# Altium schematic symbol library MCU_ST_STM32H7.SchLib: 225 symbols (part 3 of 9)
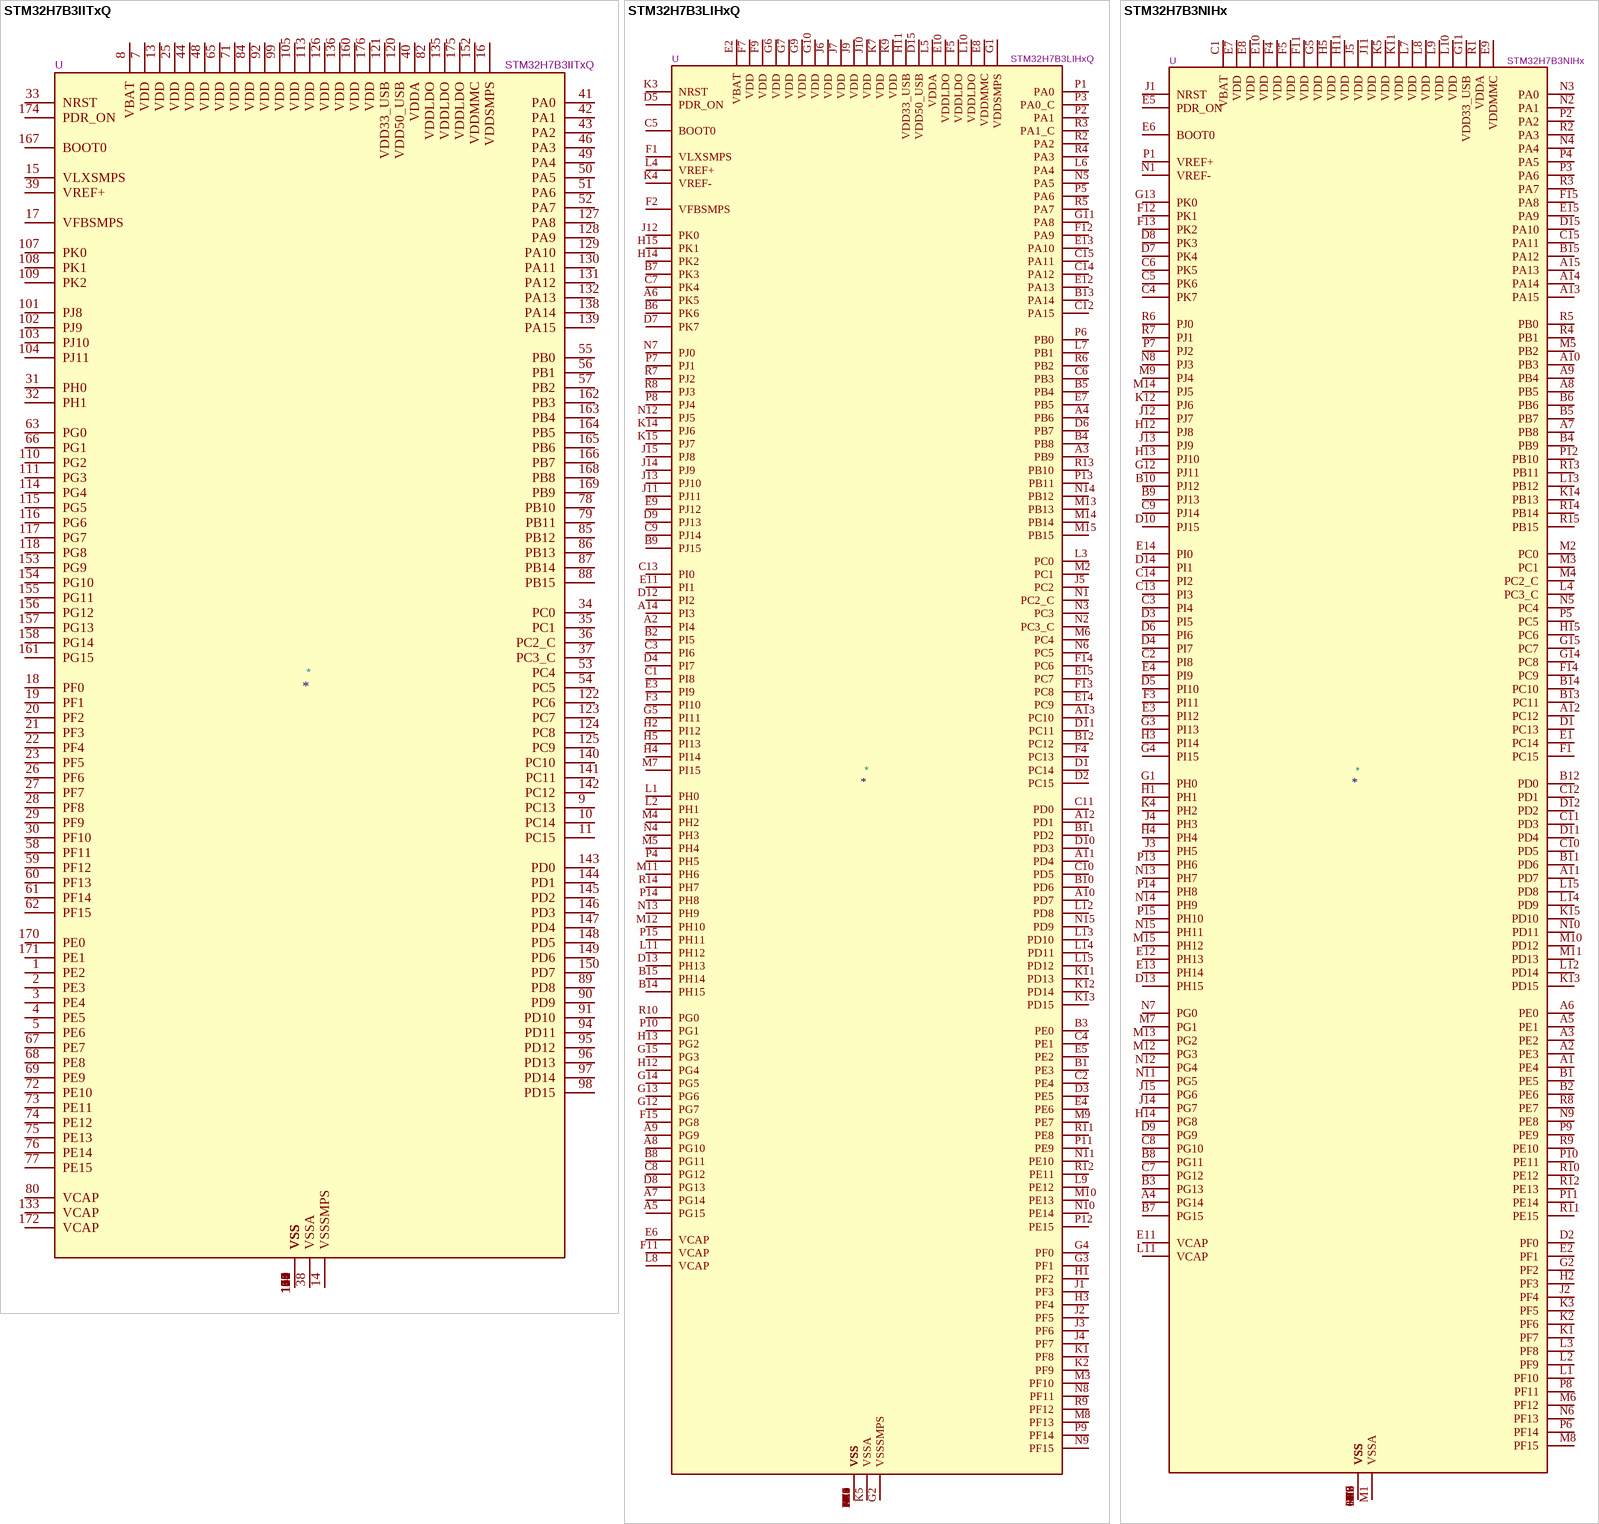
[diagram p89: symbols STM32H7B3IITxQ to STM32H7B3NIHx]

## STM32H7B3IITxQ
designator *  value STM32H7B3IITxQ  Reference: U
STMicroelectronics Arm Cortex-M7 MCU, 2048KB flash, 1184KB RAM, 280 MHz, 1.62-3.6V, 121 GPIO, LQFP176; ki_keywords: Arm Cortex-M7 STM32H7 STM32H7A3/7B3; ki_fp_filters: LQFP*24x24mm*P0.5mm*; Footprint: Package_QFP:LQFP-176_24x24mm_P0.5mm; Datasheet: https://www.st.com/resource/en/datasheet/stm32h7b3ii.pdf; Description_: STMicroelectronics Arm Cortex-M7 MCU, 2048KB flash, 1184KB RAM, 280 MHz, 1.62-3.6V, 121 GPIO, LQFP176
pins: 1 PE2, 2 PE3, 3 PE4, 4 PE5, 5 PE6, 6 VSS, 7 VDD, 8 VBAT, 9 PC13, 10 PC14, 11 PC15, 12 VSS, 13 VDD, 14 VSSSMPS, 15 VLXSMPS, 16 VDDSMPS, 17 VFBSMPS, 18 PF0, 19 PF1, 20 PF2, 21 PF3, 22 PF4, 23 PF5, 24 VSS, 25 VDD, 26 PF6, 27 PF7, 28 PF8, 29 PF9, 30 PF10, 31 PH0, 32 PH1, 33 NRST, 34 PC0, 35 PC1, 36 PC2_C, 37 PC3_C, 38 VSSA, 39 VREF+, 40 VDDA, 41 PA0, 42 PA1, 43 PA2, 44 VDD, 45 VSS, 46 PA3, 47 VSS, 48 VDD, 49 PA4, 50 PA5, 51 PA6, 52 PA7, 53 PC4, 54 PC5, 55 PB0, 56 PB1, 57 PB2, 58 PF11, 59 PF12, 60 PF13, 61 PF14, 62 PF15, 63 PG0, 64 VSS, 65 VDD, 66 PG1, 67 PE7, 68 PE8, 69 PE9, 70 VSS, 71 VDD, 72 PE10, 73 PE11, 74 PE12, 75 PE13, 76 PE14, 77 PE15, 78 PB10, 79 PB11, 80 VCAP, 81 VSS, 82 VDDLDO, 83 VSS, 84 VDD, 85 PB12, 86 PB13, 87 PB14, 88 PB15, 89 PD8, 90 PD9, 91 PD10, 92 VDD, 93 VSS, 94 PD11, 95 PD12, 96 PD13, 97 PD14, 98 PD15, 99 VDD, 100 VSS, 101 PJ8, 102 PJ9, 103 PJ10, 104 PJ11, 105 VDD, 106 VSS, 107 PK0, 108 PK1, 109 PK2, 110 PG2, 111 PG3, 112 VSS, 113 VDD, 114 PG4, 115 PG5, 116 PG6, 117 PG7, 118 PG8, 119 VSS, 120 VDD50_USB, 121 VDD33_USB, 122 PC6, 123 PC7, 124 PC8, 125 PC9, 126 VDD, 127 PA8, 128 PA9, 129 PA10, 130 PA11, 131 PA12, 132 PA13, 133 VCAP, 134 VSS, 135 VDDLDO, 136 VDD, 137 VSS, 138 PA14, 139 PA15, 140 PC10, 141 PC11, 142 PC12, 143 PD0, 144 PD1, 145 PD2, 146 PD3, 147 PD4, 148 PD5, 149 PD6, 150 PD7, 151 VSS, 152 VDDMMC, 153 PG9, 154 PG10, 155 PG11, 156 PG12, 157 PG13, 158 PG14, 159 VSS, 160 VDD, 161 PG15, 162 PB3, 163 PB4, 164 PB5, 165 PB6, 166 PB7, 167 BOOT0, 168 PB8, 169 PB9, 170 PE0, 171 PE1, 172 VCAP, 173 VSS, 174 PDR_ON, 175 VDDLDO, 176 VDD

## STM32H7B3LIHxQ
designator *  value STM32H7B3LIHxQ  Reference: U
STMicroelectronics Arm Cortex-M7 MCU, 2048KB flash, 1184KB RAM, 280 MHz, 1.62-3.6V, 172 GPIO, TFBGA225; ki_keywords: Arm Cortex-M7 STM32H7 STM32H7A3/7B3; ki_fp_filters: ST*TFBGA*13x13mm*Layout15x15*P0.8mm*; Footprint: Package_BGA:ST_TFBGA-225_13x13mm_Layout15x15_P0.8mm; Datasheet: https://www.st.com/resource/en/datasheet/stm32h7b3li.pdf; Description_: STMicroelectronics Arm Cortex-M7 MCU, 2048KB flash, 1184KB RAM, 280 MHz, 1.62-3.6V, 172 GPIO, TFBGA225
pins: A1 VSS, A2 PI4, A3 PB9, A4 PB6, A5 PG15, A6 PK5, A7 PG14, A8 PG10, A9 PG9, A10 PD7, A11 PD4, A12 PD1, A13 PC10, A14 PI3, A15 VSS, B1 PE3, B2 PI5, B3 PE0, B4 PB8, B5 PB4, B6 PK6, B7 PK3, B8 PG11, B9 PJ15, B10 PD6, B11 PD2, B12 PC12, B13 PA14, B14 PH15, B15 PH14, C1 PI8, C2 PE4, C3 PI6, C4 PE1, C5 BOOT0, C6 PB3, C7 PK4, C8 PG12, C9 PJ14, C10 PD5, C11 PD0, C12 PA15, C13 PI0, C14 PA12, C15 PA11, D1 PC14, D2 PC15, D3 PE5, D4 PI7, D5 PDR_ON, D6 PB7, D7 PK7, D8 PG13, D9 PJ13, D10 PD3, D11 PC11, D12 PI2, D13 PH13, D14 VSS, D15 VDD50_USB, E1 VSS, E2 VBAT, E3 PI9, E4 PE6, E5 PE2, E6 VCAP, E7 PB5, E8 VDDMMC, E9 PJ12, E10 VDDLDO, E11 PI1, E12 PA13, E13 PA10, E14 PC9, E15 PC7, F1 VLXSMPS, F2 VFBSMPS, F3 PI10, F4 PC13, F5 VDDLDO, F6 VSS, F7 VDD, F8 VSS, F9 VDD, F10 VSS, F11 VCAP, F12 PA9, F13 PC8, F14 PC6, F15 PG8, G1 VDDSMPS, G2 VSSSMPS, G3 PF1, G4 PF0, G5 PI11, G6 VDD, G7 VDD, G8 VSS, G9 VDD, G10 VDD, G11 PA8, G12 PG7, G13 PG6, G14 PG5, G15 PG3, H1 PF2, H2 PI12, H3 PF4, H4 PI14, H5 PI13, H6 VSS, H7 VSS, H8 VSS, H9 VSS, H10 VSS, H11 VDD33_USB, H12 PG4, H13 PG2, H14 PK2, H15 PK1, J1 PF3, J2 PF5, J3 PF6, J4 PF7, J5 PC2, J6 VDD, J7 VDD, J8 VSS, J9 VDD, J10 VDD, J11 PJ11, J12 PK0, J13 PJ10, J14 PJ9, J15 PJ8, K1 PF8, K2 PF9, K3 NRST, K4 VREF-, K5 VSSA, K6 VSS, K7 VDD, K8 VSS, K9 VDD, K10 VSS, K11 PD13, K12 PD14, K13 PD15, K14 PJ6, K15 PJ7, L1 PH0, L2 PH1, L3 PC0, L4 VREF+, L5 VDDA, L6 PA4, L7 PB1, L8 VCAP, L9 PE12, L10 VDDLDO, L11 PH12, L12 PD8, L13 PD10, L14 PD11, L15 PD12, M1 VSS, M2 PC1, M3 PF10, M4 PH2, M5 PH4, M6 PC4, M7 PI15, M8 PF13, M9 PE7, M10 PE13, M11 PH6, M12 PH10, M13 PB13, M14 PB14, M15 PB15, N1 PC2_C, N2 PC3_C, N3 PC3, N4 PH3, N5 PA5, N6 PC5, N7 PJ0, N8 PF11, N9 PF15, N10 PE14, N11 PE10, N12 PJ5, N13 PH9, N14 PB12, N15 PD9, P1 PA0, P2 PA1, P3 PA0_C, P4 PH5, P5 PA6, P6 PB0, P7 PJ1, P8 PJ4, P9 PF14, P10 PG1, P11 PE9, P12 PE15, P13 PB11, P14 PH8, P15 PH11, R1 VSS, R2 PA2, R3 PA1_C, R4 PA3, R5 PA7, R6 PB2, R7 PJ2, R8 PJ3, R9 PF12, R10 PG0, R11 PE8, R12 PE11, R13 PB10, R14 PH7, R15 VSS

## STM32H7B3NIHx
designator *  value STM32H7B3NIHx  Reference: U
STMicroelectronics Arm Cortex-M7 MCU, 2048KB flash, 1184KB RAM, 280 MHz, 1.62-3.6V, 168 GPIO, TFBGA216; ki_keywords: Arm Cortex-M7 STM32H7 STM32H7A3/7B3; ki_fp_filters: TFBGA*13x13mm*Layout15x15*P0.8mm*; Footprint: Package_BGA:TFBGA-216_13x13mm_Layout15x15_P0.8mm; Datasheet: https://www.st.com/resource/en/datasheet/stm32h7b3ni.pdf; Description_: STMicroelectronics Arm Cortex-M7 MCU, 2048KB flash, 1184KB RAM, 280 MHz, 1.62-3.6V, 168 GPIO, TFBGA216
pins: A1 PE4, A2 PE3, A3 PE2, A4 PG14, A5 PE1, A6 PE0, A7 PB8, A8 PB5, A9 PB4, A10 PB3, A11 PD7, A12 PC12, A13 PA15, A14 PA14, A15 PA13, B1 PE5, B2 PE6, B3 PG13, B4 PB9, B5 PB7, B6 PB6, B7 PG15, B8 PG11, B9 PJ13, B10 PJ12, B11 PD6, B12 PD0, B13 PC11, B14 PC10, B15 PA12, C1 VBAT, C2 PI8, C3 PI4, C4 PK7, C5 PK6, C6 PK5, C7 PG12, C8 PG10, C9 PJ14, C10 PD5, C11 PD3, C12 PD1, C13 PI3, C14 PI2, C15 PA11, D1 PC13, D2 PF0, D3 PI5, D4 PI7, D5 PI10, D6 PI6, D7 PK4, D8 PK3, D9 PG9, D10 PJ15, D11 PD4, D12 PD2, D13 PH15, D14 PI1, D15 PA10, E1 PC14, E2 PF1, E3 PI12, E4 PI9, E5 PDR_ON, E6 BOOT0, E7 VDD, E8 VDD, E9 VDDMMC, E10 VDD, E11 VCAP, E12 PH13, E13 PH14, E14 PI0, E15 PA9, F1 PC15, F2 VSS, F3 PI11, F4 VDD, F5 VDD, F6 VSS, F7 VSS, F8 VSS, F9 VSS, F10 VSS, F11 VDD, F12 PK1, F13 PK2, F14 PC9, F15 PA8, G1 PH0, G2 PF2, G3 PI13, G4 PI15, G5 VDD, G6 VSS, G10 VSS, G11 VDD33_USB, G12 PJ11, G13 PK0, G14 PC8, G15 PC7, H1 PH1, H2 PF3, H3 PI14, H4 PH4, H5 VDD, H6 VSS, H10 VSS, H11 VDD, H12 PJ8, H13 PJ10, H14 PG8, H15 PC6, J1 NRST, J2 PF4, J3 PH5, J4 PH3, J5 VDD, J6 VSS, J10 VSS, J11 VDD, J12 PJ7, J13 PJ9, J14 PG7, J15 PG6, K1 PF7, K2 PF6, K3 PF5, K4 PH2, K5 VDD, K6 VSS, K7 VSS, K8 VSS, K9 VSS, K10 VSS, K11 VDD, K12 PJ6, K13 PD15, K14 PB13, K15 PD10, L1 PF10, L2 PF9, L3 PF8, L4 PC3_C, L5 VSS, L6 VSS, L7 VDD, L8 VDD, L9 VDD, L10 VDD, L11 VCAP, L12 PD14, L13 PB12, L14 PD9, L15 PD8, M1 VSSA, M2 PC0, M3 PC1, M4 PC2_C, M5 PB2, M6 PF12, M7 PG1, M8 PF15, M9 PJ4, M10 PD12, M11 PD13, M12 PG3, M13 PG2, M14 PJ5, M15 PH12, N1 VREF-, N2 PA1, N3 PA0, N4 PA4, N5 PC4, N6 PF13, N7 PG0, N8 PJ3, N9 PE8, N10 PD11, N11 PG5, N12 PG4, N13 PH7, N14 PH9, N15 PH11, P1 VREF+, P2 PA2, P3 PA6, P4 PA5, P5 PC5, P6 PF14, P7 PJ2, P8 PF11, P9 PE9, P10 PE11, P11 PE14, P12 PB10, P13 PH6, P14 PH8, P15 PH10, R1 VDDA, R2 PA3, R3 PA7, R4 PB1, R5 PB0, R6 PJ0, R7 PJ1, R8 PE7, R9 PE10, R10 PE12, R11 PE15, R12 PE13, R13 PB11, R14 PB14, R15 PB15

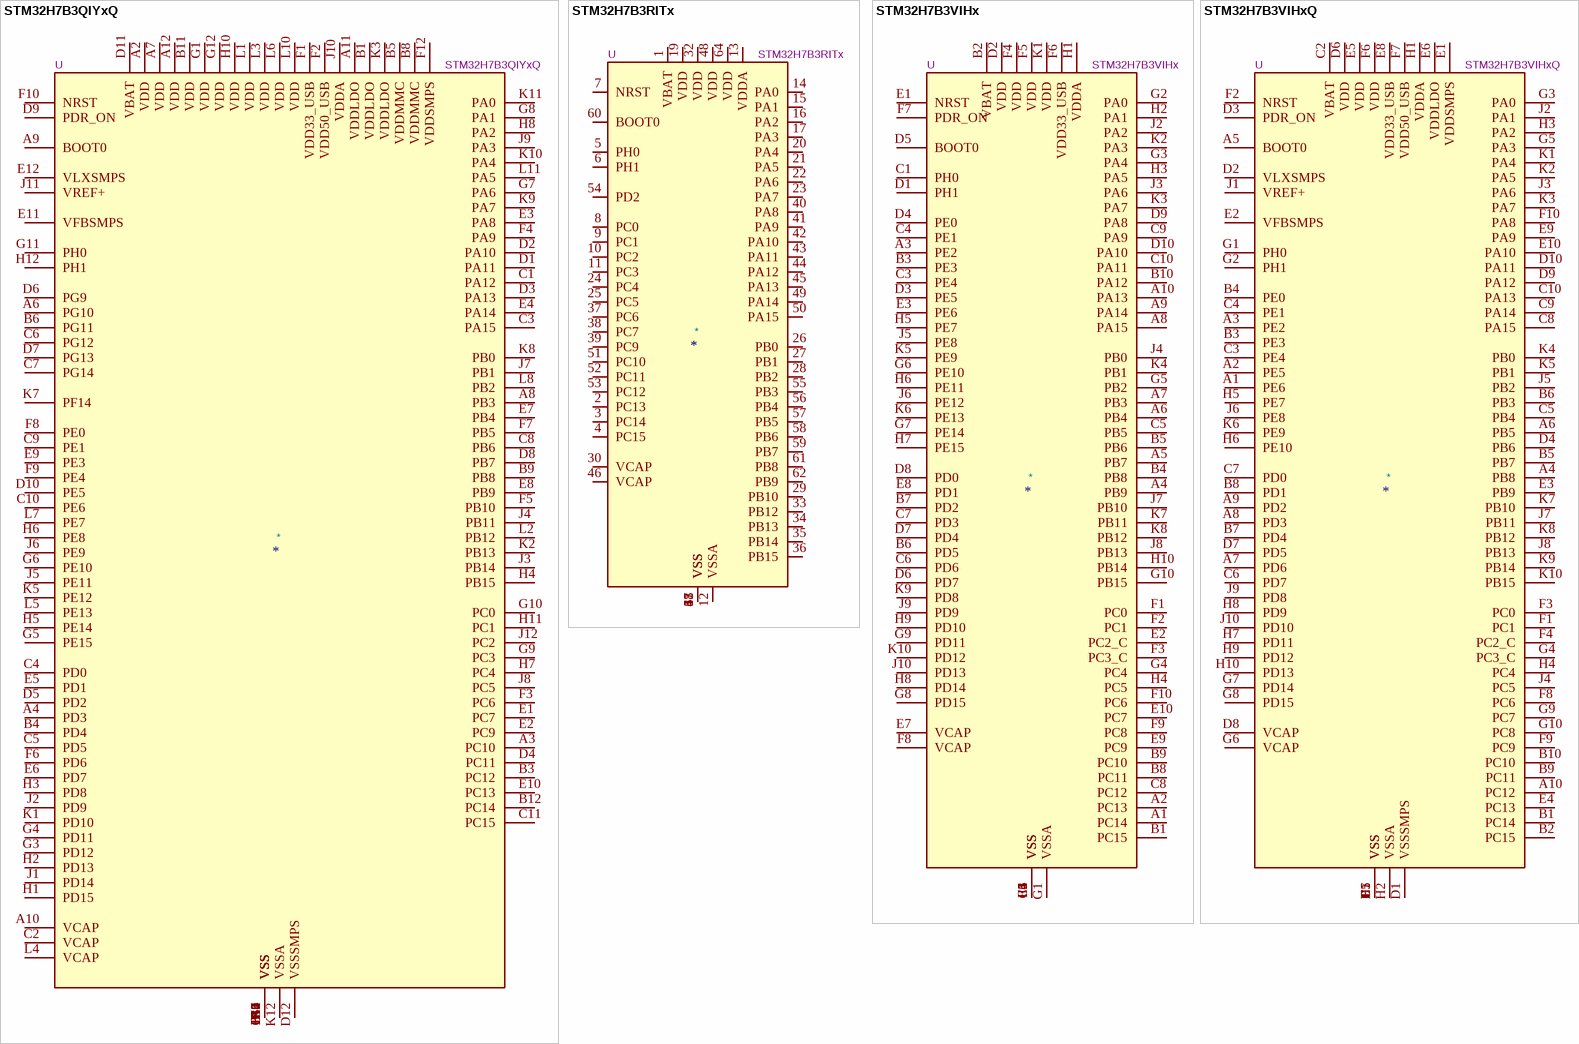
[diagram p20: symbols STM32H7B3QIYxQ to STM32H7B3VIHxQ]

## STM32H7B3QIYxQ
designator *  value STM32H7B3QIYxQ  Reference: U
STMicroelectronics Arm Cortex-M7 MCU, 2048KB flash, 1184KB RAM, 280 MHz, 1.62-3.6V, 87 GPIO, WLCSP132; ki_keywords: Arm Cortex-M7 STM32H7 STM32H7A3/7B3; ki_fp_filters: ST*WLCSP*4.57x4.37mm*Layout12x11*P0.35mm*; Footprint: Package_CSP:ST_WLCSP-132_4.57x4.37mm_Layout12x11_P0.35mm; Datasheet: https://www.st.com/resource/en/datasheet/stm32h7b3qi.pdf; Description_: STMicroelectronics Arm Cortex-M7 MCU, 2048KB flash, 1184KB RAM, 280 MHz, 1.62-3.6V, 87 GPIO, WLCSP132
pins: A1 VSS, A2 VDD, A3 PC10, A4 PD3, A5 VSS, A6 PG10, A7 VDD, A8 PB3, A9 BOOT0, A10 VCAP, A11 VDDLDO, A12 VDD, B1 VDDLDO, B2 VSS, B3 PC12, B4 PD4, B5 VDDMMC, B6 PG11, B7 VSS, B8 VDDMMC, B9 PB8, B10 VSS, B11 VDD, B12 PC14, C1 PA12, C2 VCAP, C3 PA15, C4 PD0, C5 PD5, C6 PG12, C7 PG14, C8 PB6, C9 PE1, C10 PE6, C11 PC15, C12 VSS, D1 PA11, D2 PA10, D3 PA13, D4 PC11, D5 PD2, D6 PG9, D7 PG13, D8 PB7, D9 PDR_ON, D10 PE5, D11 VBAT, D12 VSSSMPS, E1 PC7, E2 PC9, E3 PA8, E4 PA14, E5 PD1, E6 PD7, E7 PB4, E8 PB9, E9 PE3, E10 PC13, E11 VFBSMPS, E12 VLXSMPS, F1 VDD33_USB, F2 VDD50_USB, F3 PC6, F4 PA9, F5 PB10, F6 PD6, F7 PB5, F8 PE0, F9 PE4, F10 NRST, F11 VSS, F12 VDDSMPS, G1 VDD, G2 VSS, G3 PD12, G4 PD11, G5 PE15, G6 PE10, G7 PA6, G8 PA1, G9 PC3, G10 PC0, G11 PH0, G12 VDD, H1 PD15, H2 PD13, H3 PD8, H4 PB15, H5 PE14, H6 PE8, H7 PC4, H8 PA2, H9 VSS, H10 VDD, H11 PC1, H12 PH1, J1 PD14, J2 PD9, J3 PB14, J4 PB11, J5 PE11, J6 PE9, J7 PB1, J8 PC5, J9 PA3, J10 VDDA, J11 VREF+, J12 PC2, K1 PD10, K2 PB13, K3 VDDLDO, K4 VSS, K5 PE12, K6 VSS, K7 PF14, K8 PB0, K9 PA7, K10 PA4, K11 PA0, K12 VSSA, L1 VDD, L2 PB12, L3 VDD, L4 VCAP, L5 PE13, L6 VDD, L7 PE7, L8 PB2, L9 VSS, L10 VDD, L11 PA5, L12 VSS

## STM32H7B3RITx
designator *  value STM32H7B3RITx  Reference: U
STMicroelectronics Arm Cortex-M7 MCU, 2048KB flash, 1184KB RAM, 280 MHz, 1.62-3.6V, 49 GPIO, LQFP64; ki_keywords: Arm Cortex-M7 STM32H7 STM32H7A3/7B3; ki_fp_filters: LQFP*10x10mm*P0.5mm*; Footprint: Package_QFP:LQFP-64_10x10mm_P0.5mm; Datasheet: https://www.st.com/resource/en/datasheet/stm32h7b3ri.pdf; Description_: STMicroelectronics Arm Cortex-M7 MCU, 2048KB flash, 1184KB RAM, 280 MHz, 1.62-3.6V, 49 GPIO, LQFP64
pins: 1 VBAT, 2 PC13, 3 PC14, 4 PC15, 5 PH0, 6 PH1, 7 NRST, 8 PC0, 9 PC1, 10 PC2, 11 PC3, 12 VSSA, 13 VDDA, 14 PA0, 15 PA1, 16 PA2, 17 PA3, 18 VSS, 19 VDD, 20 PA4, 21 PA5, 22 PA6, 23 PA7, 24 PC4, 25 PC5, 26 PB0, 27 PB1, 28 PB2, 29 PB10, 30 VCAP, 31 VSS, 32 VDD, 33 PB12, 34 PB13, 35 PB14, 36 PB15, 37 PC6, 38 PC7, 39 PC9, 40 PA8, 41 PA9, 42 PA10, 43 PA11, 44 PA12, 45 PA13, 46 VCAP, 47 VSS, 48 VDD, 49 PA14, 50 PA15, 51 PC10, 52 PC11, 53 PC12, 54 PD2, 55 PB3, 56 PB4, 57 PB5, 58 PB6, 59 PB7, 60 BOOT0, 61 PB8, 62 PB9, 63 VSS, 64 VDD

## STM32H7B3VIHx
designator *  value STM32H7B3VIHx  Reference: U
STMicroelectronics Arm Cortex-M7 MCU, 2048KB flash, 1184KB RAM, 280 MHz, 1.62-3.6V, 82 GPIO, TFBGA100; ki_keywords: Arm Cortex-M7 STM32H7 STM32H7A3/7B3; ki_fp_filters: TFBGA*8x8mm*Layout10x10*P0.8mm*; Footprint: Package_BGA:TFBGA-100_8x8mm_Layout10x10_P0.8mm; Datasheet: https://www.st.com/resource/en/datasheet/stm32h7b3vi.pdf; Description_: STMicroelectronics Arm Cortex-M7 MCU, 2048KB flash, 1184KB RAM, 280 MHz, 1.62-3.6V, 82 GPIO, TFBGA100
pins: A1 PC14, A2 PC13, A3 PE2, A4 PB9, A5 PB7, A6 PB4, A7 PB3, A8 PA15, A9 PA14, A10 PA13, B1 PC15, B2 VBAT, B3 PE3, B4 PB8, B5 PB6, B6 PD5, B7 PD2, B8 PC11, B9 PC10, B10 PA12, C1 PH0, C2 VSS, C3 PE4, C4 PE1, C5 PB5, C6 PD6, C7 PD3, C8 PC12, C9 PA9, C10 PA11, D1 PH1, D2 VDD, D3 PE5, D4 PE0, D5 BOOT0, D6 PD7, D7 PD4, D8 PD0, D9 PA8, D10 PA10, E1 NRST, E2 PC2_C, E3 PE6, E4 VSS, E5 VSS, E6 VSS, E7 VCAP, E8 PD1, E9 PC9, E10 PC7, F1 PC0, F2 PC1, F3 PC3_C, F4 VDD, F5 VDD, F6 VDD33_USB, F7 PDR_ON, F8 VCAP, F9 PC8, F10 PC6, G1 VSSA, G2 PA0, G3 PA4, G4 PC4, G5 PB2, G6 PE10, G7 PE14, G8 PD15, G9 PD11, G10 PB15, H1 VDDA, H2 PA1, H3 PA5, H4 PC5, H5 PE7, H6 PE11, H7 PE15, H8 PD14, H9 PD10, H10 PB14, J1 VSS, J2 PA2, J3 PA6, J4 PB0, J5 PE8, J6 PE12, J7 PB10, J8 PB13, J9 PD9, J10 PD13, K1 VDD, K2 PA3, K3 PA7, K4 PB1, K5 PE9, K6 PE13, K7 PB11, K8 PB12, K9 PD8, K10 PD12

## STM32H7B3VIHxQ
designator *  value STM32H7B3VIHxQ  Reference: U
STMicroelectronics Arm Cortex-M7 MCU, 2048KB flash, 1184KB RAM, 280 MHz, 1.62-3.6V, 77 GPIO, TFBGA100; ki_keywords: Arm Cortex-M7 STM32H7 STM32H7A3/7B3; ki_fp_filters: TFBGA*8x8mm*Layout10x10*P0.8mm*; Footprint: Package_BGA:TFBGA-100_8x8mm_Layout10x10_P0.8mm; Datasheet: https://www.st.com/resource/en/datasheet/stm32h7b3vi.pdf; Description_: STMicroelectronics Arm Cortex-M7 MCU, 2048KB flash, 1184KB RAM, 280 MHz, 1.62-3.6V, 77 GPIO, TFBGA100
pins: A1 PE6, A2 PE5, A3 PE2, A4 PB8, A5 BOOT0, A6 PB5, A7 PD6, A8 PD3, A9 PD2, A10 PC12, B1 PC14, B2 PC15, B3 PE3, B4 PE0, B5 PB7, B6 PB3, B7 PD4, B8 PD1, B9 PC11, B10 PC10, C1 VSS, C2 VBAT, C3 PE4, C4 PE1, C5 PB4, C6 PD7, C7 PD0, C8 PA15, C9 PA14, C10 PA13, D1 VSSSMPS, D2 VLXSMPS, D3 PDR_ON, D4 PB6, D5 VSS, D6 VDD, D7 PD5, D8 VCAP, D9 PA12, D10 PA11, E1 VDDSMPS, E2 VFBSMPS, E3 PB9, E4 PC13, E5 VDD, E6 VDDLDO, E7 VSS, E8 VDD33_USB, E9 PA9, E10 PA10, F1 PC1, F2 NRST, F3 PC0, F4 PC2_C, F5 VSS, F6 VDD, F7 VDD50_USB, F8 PC6, F9 PC9, F10 PA8, G1 PH0, G2 PH1, G3 PA0, G4 PC3_C, G5 PA3, G6 VCAP, G7 PD14, G8 PD15, G9 PC7, G10 PC8, H1 VDDA, H2 VSSA, H3 PA2, H4 PC4, H5 PE7, H6 PE10, H7 PD11, H8 PD9, H9 PD12, H10 PD13, J1 VREF+, J2 PA1, J3 PA6, J4 PC5, J5 PB2, J6 PE8, J7 PB11, J8 PB13, J9 PD8, J10 PD10, K1 PA4, K2 PA5, K3 PA7, K4 PB0, K5 PB1, K6 PE9, K7 PB10, K8 PB12, K9 PB14, K10 PB15

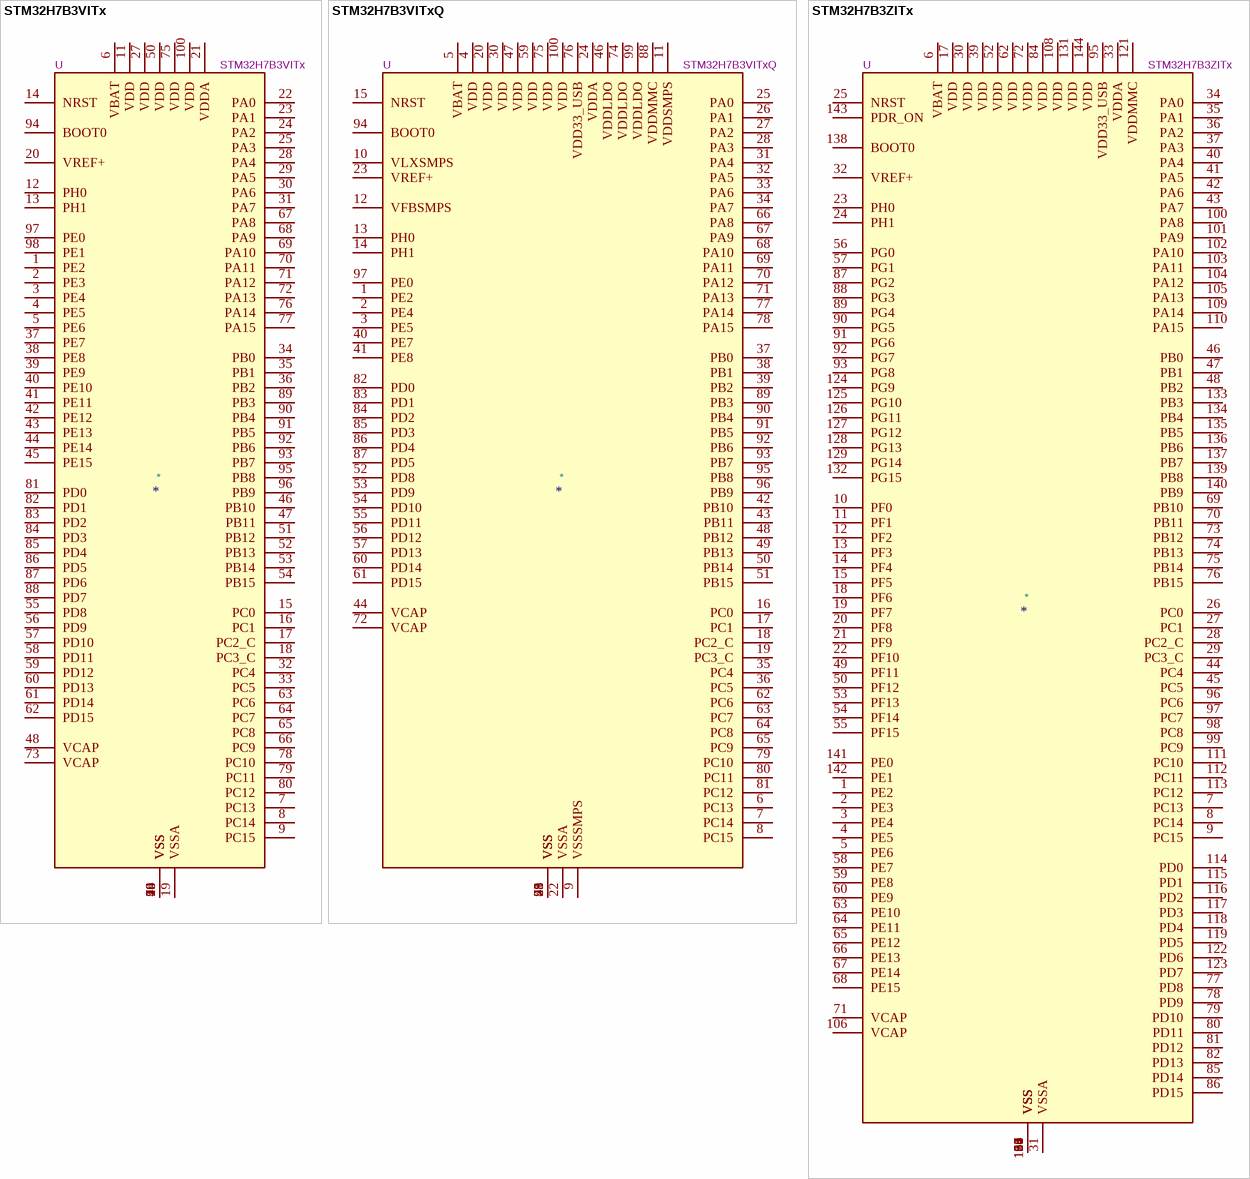
[diagram p21: symbols STM32H7B3VITx to STM32H7B3ZITx]

## STM32H7B3VITx
designator *  value STM32H7B3VITx  Reference: U
STMicroelectronics Arm Cortex-M7 MCU, 2048KB flash, 1184KB RAM, 280 MHz, 1.62-3.6V, 82 GPIO, LQFP100; ki_keywords: Arm Cortex-M7 STM32H7 STM32H7A3/7B3; ki_fp_filters: LQFP*14x14mm*P0.5mm*; Footprint: Package_QFP:LQFP-100_14x14mm_P0.5mm; Datasheet: https://www.st.com/resource/en/datasheet/stm32h7b3vi.pdf; Description_: STMicroelectronics Arm Cortex-M7 MCU, 2048KB flash, 1184KB RAM, 280 MHz, 1.62-3.6V, 82 GPIO, LQFP100
pins: 1 PE2, 2 PE3, 3 PE4, 4 PE5, 5 PE6, 6 VBAT, 7 PC13, 8 PC14, 9 PC15, 10 VSS, 11 VDD, 12 PH0, 13 PH1, 14 NRST, 15 PC0, 16 PC1, 17 PC2_C, 18 PC3_C, 19 VSSA, 20 VREF+, 21 VDDA, 22 PA0, 23 PA1, 24 PA2, 25 PA3, 26 VSS, 27 VDD, 28 PA4, 29 PA5, 30 PA6, 31 PA7, 32 PC4, 33 PC5, 34 PB0, 35 PB1, 36 PB2, 37 PE7, 38 PE8, 39 PE9, 40 PE10, 41 PE11, 42 PE12, 43 PE13, 44 PE14, 45 PE15, 46 PB10, 47 PB11, 48 VCAP, 49 VSS, 50 VDD, 51 PB12, 52 PB13, 53 PB14, 54 PB15, 55 PD8, 56 PD9, 57 PD10, 58 PD11, 59 PD12, 60 PD13, 61 PD14, 62 PD15, 63 PC6, 64 PC7, 65 PC8, 66 PC9, 67 PA8, 68 PA9, 69 PA10, 70 PA11, 71 PA12, 72 PA13, 73 VCAP, 74 VSS, 75 VDD, 76 PA14, 77 PA15, 78 PC10, 79 PC11, 80 PC12, 81 PD0, 82 PD1, 83 PD2, 84 PD3, 85 PD4, 86 PD5, 87 PD6, 88 PD7, 89 PB3, 90 PB4, 91 PB5, 92 PB6, 93 PB7, 94 BOOT0, 95 PB8, 96 PB9, 97 PE0, 98 PE1, 99 VSS, 100 VDD

## STM32H7B3VITxQ
designator *  value STM32H7B3VITxQ  Reference: U
STMicroelectronics Arm Cortex-M7 MCU, 2048KB flash, 1184KB RAM, 280 MHz, 1.62-3.6V, 70 GPIO, LQFP100; ki_keywords: Arm Cortex-M7 STM32H7 STM32H7A3/7B3; ki_fp_filters: LQFP*14x14mm*P0.5mm*; Footprint: Package_QFP:LQFP-100_14x14mm_P0.5mm; Datasheet: https://www.st.com/resource/en/datasheet/stm32h7b3vi.pdf; Description_: STMicroelectronics Arm Cortex-M7 MCU, 2048KB flash, 1184KB RAM, 280 MHz, 1.62-3.6V, 70 GPIO, LQFP100
pins: 1 PE2, 2 PE4, 3 PE5, 4 VDD, 5 VBAT, 6 PC13, 7 PC14, 8 PC15, 9 VSSSMPS, 10 VLXSMPS, 11 VDDSMPS, 12 VFBSMPS, 13 PH0, 14 PH1, 15 NRST, 16 PC0, 17 PC1, 18 PC2_C, 19 PC3_C, 20 VDD, 21 VSS, 22 VSSA, 23 VREF+, 24 VDDA, 25 PA0, 26 PA1, 27 PA2, 28 PA3, 29 VSS, 30 VDD, 31 PA4, 32 PA5, 33 PA6, 34 PA7, 35 PC4, 36 PC5, 37 PB0, 38 PB1, 39 PB2, 40 PE7, 41 PE8, 42 PB10, 43 PB11, 44 VCAP, 45 VSS, 46 VDDLDO, 47 VDD, 48 PB12, 49 PB13, 50 PB14, 51 PB15, 52 PD8, 53 PD9, 54 PD10, 55 PD11, 56 PD12, 57 PD13, 58 VSS, 59 VDD, 60 PD14, 61 PD15, 62 PC6, 63 PC7, 64 PC8, 65 PC9, 66 PA8, 67 PA9, 68 PA10, 69 PA11, 70 PA12, 71 PA13, 72 VCAP, 73 VSS, 74 VDDLDO, 75 VDD, 76 VDD33_USB, 77 PA14, 78 PA15, 79 PC10, 80 PC11, 81 PC12, 82 PD0, 83 PD1, 84 PD2, 85 PD3, 86 PD4, 87 PD5, 88 VDDMMC, 89 PB3, 90 PB4, 91 PB5, 92 PB6, 93 PB7, 94 BOOT0, 95 PB8, 96 PB9, 97 PE0, 98 VSS, 99 VDDLDO, 100 VDD

## STM32H7B3ZITx
designator *  value STM32H7B3ZITx  Reference: U
STMicroelectronics Arm Cortex-M7 MCU, 2048KB flash, 1184KB RAM, 280 MHz, 1.62-3.6V, 114 GPIO, LQFP144; ki_keywords: Arm Cortex-M7 STM32H7 STM32H7A3/7B3; ki_fp_filters: LQFP*20x20mm*P0.5mm*; Footprint: Package_QFP:LQFP-144_20x20mm_P0.5mm; Datasheet: https://www.st.com/resource/en/datasheet/stm32h7b3zi.pdf; Description_: STMicroelectronics Arm Cortex-M7 MCU, 2048KB flash, 1184KB RAM, 280 MHz, 1.62-3.6V, 114 GPIO, LQFP144
pins: 1 PE2, 2 PE3, 3 PE4, 4 PE5, 5 PE6, 6 VBAT, 7 PC13, 8 PC14, 9 PC15, 10 PF0, 11 PF1, 12 PF2, 13 PF3, 14 PF4, 15 PF5, 16 VSS, 17 VDD, 18 PF6, 19 PF7, 20 PF8, 21 PF9, 22 PF10, 23 PH0, 24 PH1, 25 NRST, 26 PC0, 27 PC1, 28 PC2_C, 29 PC3_C, 30 VDD, 31 VSSA, 32 VREF+, 33 VDDA, 34 PA0, 35 PA1, 36 PA2, 37 PA3, 38 VSS, 39 VDD, 40 PA4, 41 PA5, 42 PA6, 43 PA7, 44 PC4, 45 PC5, 46 PB0, 47 PB1, 48 PB2, 49 PF11, 50 PF12, 51 VSS, 52 VDD, 53 PF13, 54 PF14, 55 PF15, 56 PG0, 57 PG1, 58 PE7, 59 PE8, 60 PE9, 61 VSS, 62 VDD, 63 PE10, 64 PE11, 65 PE12, 66 PE13, 67 PE14, 68 PE15, 69 PB10, 70 PB11, 71 VCAP, 72 VDD, 73 PB12, 74 PB13, 75 PB14, 76 PB15, 77 PD8, 78 PD9, 79 PD10, 80 PD11, 81 PD12, 82 PD13, 83 VSS, 84 VDD, 85 PD14, 86 PD15, 87 PG2, 88 PG3, 89 PG4, 90 PG5, 91 PG6, 92 PG7, 93 PG8, 94 VSS, 95 VDD33_USB, 96 PC6, 97 PC7, 98 PC8, 99 PC9, 100 PA8, 101 PA9, 102 PA10, 103 PA11, 104 PA12, 105 PA13, 106 VCAP, 107 VSS, 108 VDD, 109 PA14, 110 PA15, 111 PC10, 112 PC11, 113 PC12, 114 PD0, 115 PD1, 116 PD2, 117 PD3, 118 PD4, 119 PD5, 120 VSS, 121 VDDMMC, 122 PD6, 123 PD7, 124 PG9, 125 PG10, 126 PG11, 127 PG12, 128 PG13, 129 PG14, 130 VSS, 131 VDD, 132 PG15, 133 PB3, 134 PB4, 135 PB5, 136 PB6, 137 PB7, 138 BOOT0, 139 PB8, 140 PB9, 141 PE0, 142 PE1, 143 PDR_ON, 144 VDD

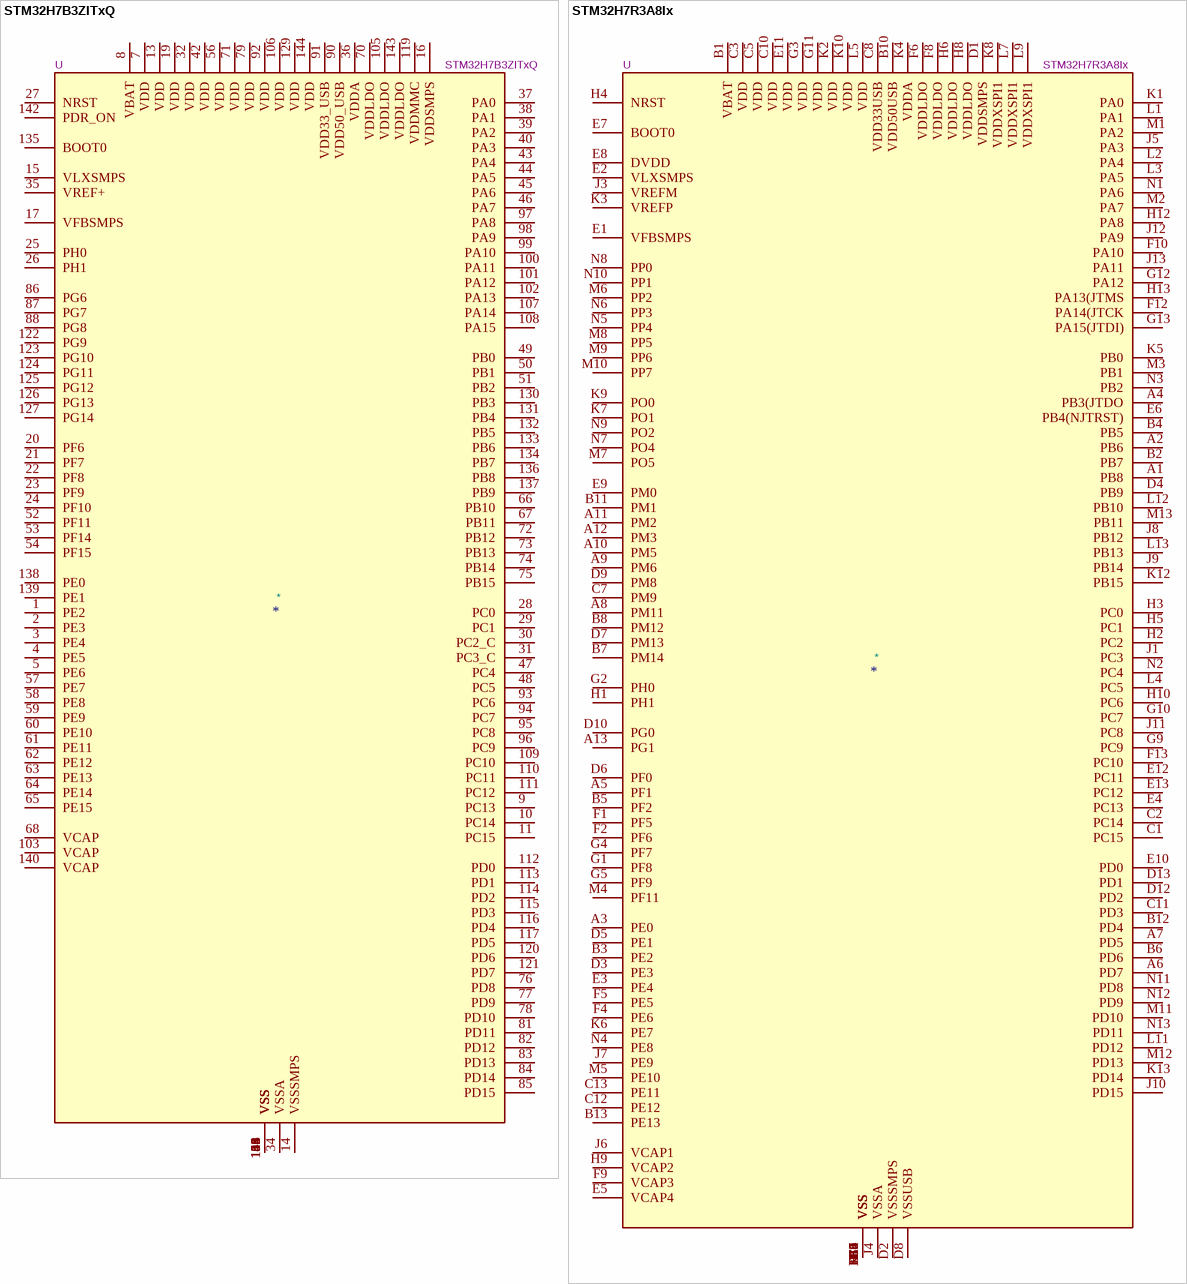
[diagram p22: symbols STM32H7B3ZITxQ to STM32H7R3A8Ix]

## STM32H7B3ZITxQ
designator *  value STM32H7B3ZITxQ  Reference: U
STMicroelectronics Arm Cortex-M7 MCU, 2048KB flash, 1184KB RAM, 280 MHz, 1.62-3.6V, 99 GPIO, LQFP144; ki_keywords: Arm Cortex-M7 STM32H7 STM32H7A3/7B3; ki_fp_filters: LQFP*20x20mm*P0.5mm*; Footprint: Package_QFP:LQFP-144_20x20mm_P0.5mm; Datasheet: https://www.st.com/resource/en/datasheet/stm32h7b3zi.pdf; Description_: STMicroelectronics Arm Cortex-M7 MCU, 2048KB flash, 1184KB RAM, 280 MHz, 1.62-3.6V, 99 GPIO, LQFP144
pins: 1 PE2, 2 PE3, 3 PE4, 4 PE5, 5 PE6, 6 VSS, 7 VDD, 8 VBAT, 9 PC13, 10 PC14, 11 PC15, 12 VSS, 13 VDD, 14 VSSSMPS, 15 VLXSMPS, 16 VDDSMPS, 17 VFBSMPS, 18 VSS, 19 VDD, 20 PF6, 21 PF7, 22 PF8, 23 PF9, 24 PF10, 25 PH0, 26 PH1, 27 NRST, 28 PC0, 29 PC1, 30 PC2_C, 31 PC3_C, 32 VDD, 33 VSS, 34 VSSA, 35 VREF+, 36 VDDA, 37 PA0, 38 PA1, 39 PA2, 40 PA3, 41 VSS, 42 VDD, 43 PA4, 44 PA5, 45 PA6, 46 PA7, 47 PC4, 48 PC5, 49 PB0, 50 PB1, 51 PB2, 52 PF11, 53 PF14, 54 PF15, 55 VSS, 56 VDD, 57 PE7, 58 PE8, 59 PE9, 60 PE10, 61 PE11, 62 PE12, 63 PE13, 64 PE14, 65 PE15, 66 PB10, 67 PB11, 68 VCAP, 69 VSS, 70 VDDLDO, 71 VDD, 72 PB12, 73 PB13, 74 PB14, 75 PB15, 76 PD8, 77 PD9, 78 PD10, 79 VDD, 80 VSS, 81 PD11, 82 PD12, 83 PD13, 84 PD14, 85 PD15, 86 PG6, 87 PG7, 88 PG8, 89 VSS, 90 VDD50_USB, 91 VDD33_USB, 92 VDD, 93 PC6, 94 PC7, 95 PC8, 96 PC9, 97 PA8, 98 PA9, 99 PA10, 100 PA11, 101 PA12, 102 PA13, 103 VCAP, 104 VSS, 105 VDDLDO, 106 VDD, 107 PA14, 108 PA15, 109 PC10, 110 PC11, 111 PC12, 112 PD0, 113 PD1, 114 PD2, 115 PD3, 116 PD4, 117 PD5, 118 VSS, 119 VDDMMC, 120 PD6, 121 PD7, 122 PG9, 123 PG10, 124 PG11, 125 PG12, 126 PG13, 127 PG14, 128 VSS, 129 VDD, 130 PB3, 131 PB4, 132 PB5, 133 PB6, 134 PB7, 135 BOOT0, 136 PB8, 137 PB9, 138 PE0, 139 PE1, 140 VCAP, 141 VSS, 142 PDR_ON, 143 VDDLDO, 144 VDD

## STM32H7R3A8Ix
designator *  value STM32H7R3A8Ix  Reference: U
STMicroelectronics Arm Cortex-M7 MCU, 64KB flash, 620KB RAM, 600 MHz, 1.62-3.6V, 116 GPIO, UFBGA169; ki_keywords: Arm Cortex-M7 STM32H7 STM32H7R3/7S3; ki_fp_filters: UFBGA*7x7mm*Layout13x13*P0.5mm*; Footprint: Package_BGA:UFBGA-169_7x7mm_Layout13x13_P0.5mm; Datasheet: https://www.st.com/resource/en/datasheet/stm32h7r3a8.pdf; Description_: STMicroelectronics Arm Cortex-M7 MCU, 64KB flash, 620KB RAM, 600 MHz, 1.62-3.6V, 116 GPIO, UFBGA169
pins: A1 PB8, A2 PB6, A3 PE0, A4 PB3(JTDO, A5 PF1, A6 PD7, A7 PD5, A8 PM11, A9 PM6, A10 PM5, A11 PM2, A12 PM3, A13 PG1, B1 VBAT, B2 PB7, B3 PE2, B4 PB5, B5 PF2, B6 PD6, B7 PM14, B8 PM12, B9 VSS, B10 VDD50USB, B11 PM1, B12 PD4, B13 PE13, C1 PC15, C2 PC14, C3 VDD, C4 VSS, C5 VDD, C6 VSS, C7 PM9, C8 VDD33USB, C9 VSS, C10 VDD, C11 PD3, C12 PE12, C13 PE11, D1 VDDSMPS, D2 VSSSMPS, D3 PE3, D4 PB9, D5 PE1, D6 PF0, D7 PM13, D8 VSSUSB, D9 PM8, D10 PG0, D11 VSS, D12 PD2, D13 PD1, E1 VFBSMPS, E2 VLXSMPS, E3 PE4, E4 PC13, E5 VCAP4, E6 PB4(NJTRST), E7 BOOT0, E8 DVDD, E9 PM0, E10 PD0, E11 VDD, E12 PC11, E13 PC12, F1 PF5, F2 PF6, F3 VSS, F4 PE6, F5 PE5, F6 VDDLDO, F7 VSS, F8 VDDLDO, F9 VCAP3, F10 PA10, F11 VSS, F12 PA14(JTCK, F13 PC10, G1 PF8, G2 PH0, G3 VDD, G4 PF7, G5 PF9, G6 VSS, G7 VSS, G8 VSS, G9 PC9, G10 PC7, G11 VDD, G12 PA12, G13 PA15(JTDI), H1 PH1, H2 PC2, H3 PC0, H4 NRST, H5 PC1, H6 VDDLDO, H7 VSS, H8 VDDLDO, H9 VCAP2, H10 PC6, H11 VSS, H12 PA8, H13 PA13(JTMS, J1 PC3, J2 VSS, J3 VREFM, J4 VSSA, J5 PA3, J6 VCAP1, J7 PE9, J8 PB12, J9 PB14, J10 PD15, J11 PC8, J12 PA9, J13 PA11, K1 PA0, K2 VDD, K3 VREFP, K4 VDDA, K5 PB0, K6 PE7, K7 PO1, K8 VDDXSPI1, K9 PO0, K10 VDD, K11 VSS, K12 PB15, K13 PD14, L1 PA1, L2 PA4, L3 PA5, L4 PC5, L5 VDD, L6 VSS, L7 VDDXSPI1, L8 VSS, L9 VDDXSPI1, L10 VSS, L11 PD12, L12 PB10, L13 PB13, M1 PA2, M2 PA7, M3 PB1, M4 PF11, M5 PE10, M6 PP2, M7 PO5, M8 PP5, M9 PP6, M10 PP7, M11 PD10, M12 PD13, M13 PB11, N1 PA6, N2 PC4, N3 PB2, N4 PE8, N5 PP4, N6 PP3, N7 PO4, N8 PP0, N9 PO2, N10 PP1, N11 PD8, N12 PD9, N13 PD11

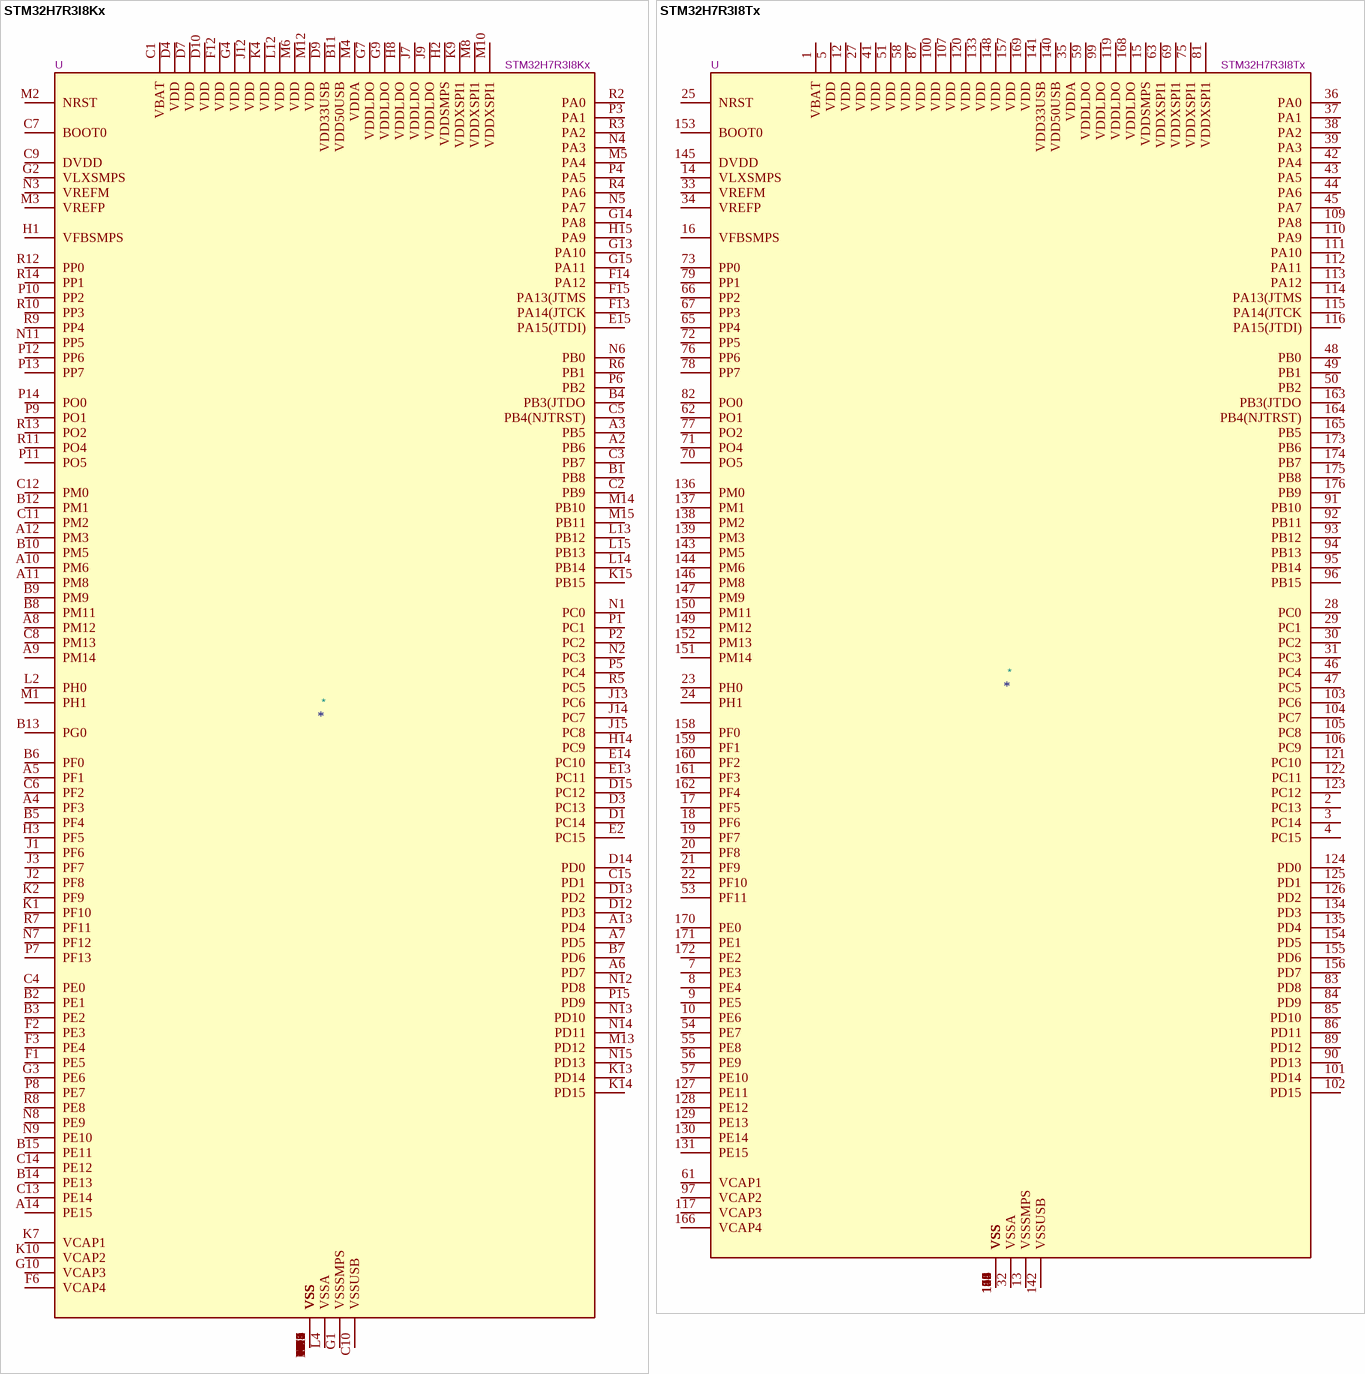
[diagram p23: symbols STM32H7R3I8Kx to STM32H7R3I8Tx]

## STM32H7R3I8Kx
designator *  value STM32H7R3I8Kx  Reference: U
STMicroelectronics Arm Cortex-M7 MCU, 64KB flash, 620KB RAM, 600 MHz, 1.62-3.6V, 122 GPIO, UFBGA176; ki_keywords: Arm Cortex-M7 STM32H7 STM32H7R3/7S3; ki_fp_filters: UFBGA*10x10mm*Layout15x15*P0.65mm*; Footprint: Package_BGA:UFBGA-201_10x10mm_Layout15x15_P0.65mm; Datasheet: https://www.st.com/resource/en/datasheet/stm32h7r3i8.pdf; Description_: STMicroelectronics Arm Cortex-M7 MCU, 64KB flash, 620KB RAM, 600 MHz, 1.62-3.6V, 122 GPIO, UFBGA176
pins: A1 VSS, A2 PB6, A3 PB5, A4 PF3, A5 PF1, A6 PD7, A7 PD5, A8 PM12, A9 PM14, A10 PM6, A11 PM8, A12 PM3, A13 PD4, A14 PE15, A15 VSS, B1 PB8, B2 PE1, B3 PE2, B4 PB3(JTDO, B5 PF4, B6 PF0, B7 PD6, B8 PM11, B9 PM9, B10 PM5, B11 VDD50USB, B12 PM1, B13 PG0, B14 PE13, B15 PE11, C1 VBAT, C2 PB9, C3 PB7, C4 PE0, C5 PB4(NJTRST), C6 PF2, C7 BOOT0, C8 PM13, C9 DVDD, C10 VSSUSB, C11 PM2, C12 PM0, C13 PE14, C14 PE12, C15 PD1, D1 PC14, D2 VSS, D3 PC13, D4 VDD, D5 VSS, D6 VSS, D7 VDD, D8 VSS, D9 VDD33USB, D10 VDD, D11 VSS, D12 PD3, D13 PD2, D14 PD0, D15 PC12, E1 VSS, E2 PC15, E3 VSS, E4 VSS, E12 VSS, E13 PC11, E14 PC10, E15 PA15(JTDI), F1 PE5, F2 PE3, F3 PE4, F4 VSS, F6 VCAP4, F7 VSS, F8 VSS, F9 VSS, F10 VSS, F12 VDD, F13 PA14(JTCK, F14 PA12, F15 PA13(JTMS, G1 VSSSMPS, G2 VLXSMPS, G3 PE6, G4 VDD, G6 VSS, G7 VDDLDO, G8 VSS, G9 VDDLDO, G10 VCAP3, G12 VSS, G13 PA10, G14 PA8, G15 PA11, H1 VFBSMPS, H2 VDDSMPS, H3 PF5, H4 VSS, H6 VSS, H7 VSS, H8 VDDLDO, H9 VSS, H10 VSS, H12 VSS, H13 VSS, H14 PC9, H15 PA9, J1 PF6, J2 PF8, J3 PF7, J4 VSS, J6 VSS, J7 VDDLDO, J8 VSS, J9 VDDLDO, J10 VSS, J12 VDD, J13 PC6, J14 PC7, J15 PC8, K1 PF10, K2 PF9, K3 VSS, K4 VDD, K6 VSS, K7 VCAP1, K8 VSS, K9 VDDXSPI1, K10 VCAP2, K12 VSS, K13 PD14, K14 PD15, K15 PB15, L1 VSS, L2 PH0, L3 VSS, L4 VSSA, L12 VDD, L13 PB12, L14 PB14, L15 PB13, M1 PH1, M2 NRST, M3 VREFP, M4 VDDA, M5 PA4, M6 VDD, M7 VSS, M8 VDDXSPI1, M9 VSS, M10 VDDXSPI1, M11 VSS, M12 VDD, M13 PD12, M14 PB10, M15 PB11, N1 PC0, N2 PC3, N3 VREFM, N4 PA3, N5 PA7, N6 PB0, N7 PF12, N8 PE9, N9 PE10, N10 VSS, N11 PP5, N12 PD8, N13 PD10, N14 PD11, N15 PD13, P1 PC1, P2 PC2, P3 PA1, P4 PA5, P5 PC4, P6 PB2, P7 PF13, P8 PE7, P9 PO1, P10 PP2, P11 PO5, P12 PP6, P13 PP7, P14 PO0, P15 PD9, R1 VSS, R2 PA0, R3 PA2, R4 PA6, R5 PC5, R6 PB1, R7 PF11, R8 PE8, R9 PP4, R10 PP3, R11 PO4, R12 PP0, R13 PO2, R14 PP1, R15 VSS

## STM32H7R3I8Tx
designator *  value STM32H7R3I8Tx  Reference: U
STMicroelectronics Arm Cortex-M7 MCU, 64KB flash, 620KB RAM, 600 MHz, 1.62-3.6V, 119 GPIO, LQFP176; ki_keywords: Arm Cortex-M7 STM32H7 STM32H7R3/7S3; ki_fp_filters: LQFP*24x24mm*P0.5mm*; Footprint: Package_QFP:LQFP-176_24x24mm_P0.5mm; Datasheet: https://www.st.com/resource/en/datasheet/stm32h7r3i8.pdf; Description_: STMicroelectronics Arm Cortex-M7 MCU, 64KB flash, 620KB RAM, 600 MHz, 1.62-3.6V, 119 GPIO, LQFP176
pins: 1 VBAT, 2 PC13, 3 PC14, 4 PC15, 5 VDD, 6 VSS, 7 PE3, 8 PE4, 9 PE5, 10 PE6, 11 VSS, 12 VDD, 13 VSSSMPS, 14 VLXSMPS, 15 VDDSMPS, 16 VFBSMPS, 17 PF5, 18 PF6, 19 PF7, 20 PF8, 21 PF9, 22 PF10, 23 PH0, 24 PH1, 25 NRST, 26 VSS, 27 VDD, 28 PC0, 29 PC1, 30 PC2, 31 PC3, 32 VSSA, 33 VREFM, 34 VREFP, 35 VDDA, 36 PA0, 37 PA1, 38 PA2, 39 PA3, 40 VSS, 41 VDD, 42 PA4, 43 PA5, 44 PA6, 45 PA7, 46 PC4, 47 PC5, 48 PB0, 49 PB1, 50 PB2, 51 VDD, 52 VSS, 53 PF11, 54 PE7, 55 PE8, 56 PE9, 57 PE10, 58 VDD, 59 VDDLDO, 60 VSS, 61 VCAP1, 62 PO1, 63 VDDXSPI1, 64 VSS, 65 PP4, 66 PP2, 67 PP3, 68 VSS, 69 VDDXSPI1, 70 PO5, 71 PO4, 72 PP5, 73 PP0, 74 VSS, 75 VDDXSPI1, 76 PP6, 77 PO2, 78 PP7, 79 PP1, 80 VSS, 81 VDDXSPI1, 82 PO0, 83 PD8, 84 PD9, 85 PD10, 86 PD11, 87 VDD, 88 VSS, 89 PD12, 90 PD13, 91 PB10, 92 PB11, 93 PB12, 94 PB13, 95 PB14, 96 PB15, 97 VCAP2, 98 VSS, 99 VDDLDO, 100 VDD, 101 PD14, 102 PD15, 103 PC6, 104 PC7, 105 PC8, 106 PC9, 107 VDD, 108 VSS, 109 PA8, 110 PA9, 111 PA10, 112 PA11, 113 PA12, 114 PA13(JTMS, 115 PA14(JTCK, 116 PA15(JTDI), 117 VCAP3, 118 VSS, 119 VDDLDO, 120 VDD, 121 PC10, 122 PC11, 123 PC12, 124 PD0, 125 PD1, 126 PD2, 127 PE11, 128 PE12, 129 PE13, 130 PE14, 131 PE15, 132 VSS, 133 VDD, 134 PD3, 135 PD4, 136 PM0, 137 PM1, 138 PM2, 139 PM3, 140 VDD50USB, 141 VDD33USB, 142 VSSUSB, 143 PM5, 144 PM6, 145 DVDD, 146 PM8, 147 PM9, 148 VDD, 149 PM12, 150 PM11, 151 PM14, 152 PM13, 153 BOOT0, 154 PD5, 155 PD6, 156 PD7, 157 VDD, 158 PF0, 159 PF1, 160 PF2, 161 PF3, 162 PF4, 163 PB3(JTDO, 164 PB4(NJTRST), 165 PB5, 166 VCAP4, 167 VSS, 168 VDDLDO, 169 VDD, 170 PE0, 171 PE1, 172 PE2, 173 PB6, 174 PB7, 175 PB8, 176 PB9

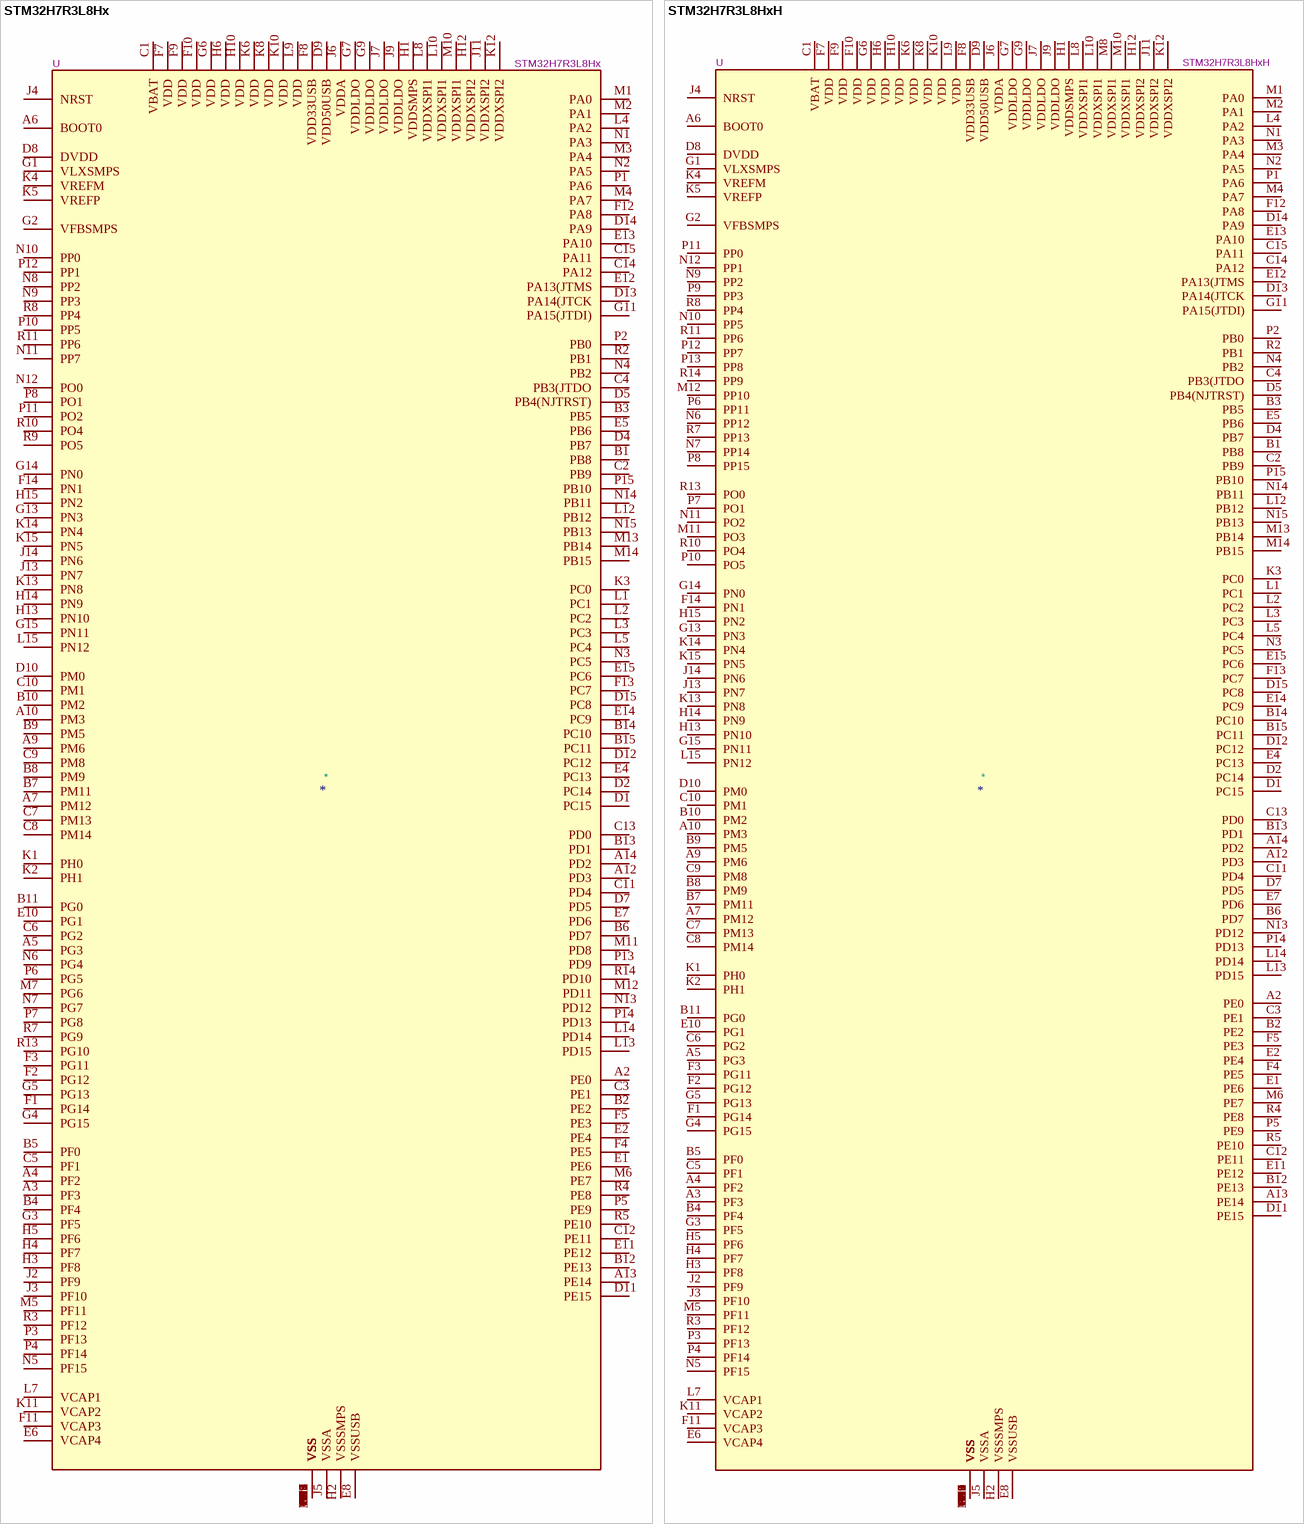
[diagram p24: symbols STM32H7R3L8Hx to STM32H7R3L8HxH]

## STM32H7R3L8Hx
designator *  value STM32H7R3L8Hx  Reference: U
STMicroelectronics Arm Cortex-M7 MCU, 64KB flash, 620KB RAM, 152 GPIO, TFBGA225 OCTO SMPS; ki_keywords: Arm Cortex-M7 STM32H7 STM32H7R3/7S3; ki_fp_filters: ST*TFBGA*13x13mm*Layout15x15*P0.8mm*; Footprint: Package_BGA:ST_TFBGA-225_13x13mm_Layout15x15_P0.8mm; Datasheet: https://www.st.com/resource/en/datasheet/stm32h7r3l8.pdf; Description_: STMicroelectronics Arm Cortex-M7 MCU, 64KB flash, 620KB RAM, 152 GPIO, TFBGA225 OCTO SMPS
pins: A1 VSS, A2 PE0, A3 PF3, A4 PF2, A5 PG3, A6 BOOT0, A7 PM12, A8 VSS, A9 PM6, A10 PM3, A11 VSS, A12 PD3, A13 PE14, A14 PD2, A15 VSS, B1 PB8, B2 PE2, B3 PB5, B4 PF4, B5 PF0, B6 PD7, B7 PM11, B8 PM9, B9 PM5, B10 PM2, B11 PG0, B12 PE13, B13 PD1, B14 PC10, B15 PC11, C1 VBAT, C2 PB9, C3 PE1, C4 PB3(JTDO, C5 PF1, C6 PG2, C7 PM13, C8 PM14, C9 PM8, C10 PM1, C11 PD4, C12 PE11, C13 PD0, C14 PA12, C15 PA11, D1 PC15, D2 PC14, D3 VSS, D4 PB7, D5 PB4(NJTRST), D6 VSS, D7 PD5, D8 DVDD, D9 VDD50USB, D10 PM0, D11 PE15, D12 PC12, D13 PA14(JTCK, D14 PA9, D15 PC8, E1 PE6, E2 PE4, E3 VSS, E4 PC13, E5 PB6, E6 VCAP4, E7 PD6, E8 VSSUSB, E9 VSS, E10 PG1, E11 PE12, E12 PA13(JTMS, E13 PA10, E14 PC9, E15 PC6, F1 PG14, F2 PG12, F3 PG11, F4 PE5, F5 PE3, F6 VSS, F7 VDD, F8 VDD33USB, F9 VDD, F10 VDD, F11 VCAP3, F12 PA8, F13 PC7, F14 PN1, F15 VSS, G1 VLXSMPS, G2 VFBSMPS, G3 PF5, G4 PG15, G5 PG13, G6 VDD, G7 VDDLDO, G8 VSS, G9 VDDLDO, G10 VSS, G11 PA15(JTDI), G12 VSS, G13 PN3, G14 PN0, G15 PN11, H1 VDDSMPS, H2 VSSSMPS, H3 PF8, H4 PF7, H5 PF6, H6 VDD, H7 VSS, H8 VSS, H9 VSS, H10 VDD, H11 VSS, H12 VDDXSPI2, H13 PN10, H14 PN9, H15 PN2, J1 VSS, J2 PF9, J3 PF10, J4 NRST, J5 VSSA, J6 VDDA, J7 VDDLDO, J8 VSS, J9 VDDLDO, J10 VSS, J11 VDDXSPI2, J12 VSS, J13 PN7, J14 PN6, J15 VSS, K1 PH0, K2 PH1, K3 PC0, K4 VREFM, K5 VREFP, K6 VDD, K7 VSS, K8 VDD, K9 VSS, K10 VDD, K11 VCAP2, K12 VDDXSPI2, K13 PN8, K14 PN4, K15 PN5, L1 PC1, L2 PC2, L3 PC3, L4 PA2, L5 PC4, L6 VSS, L7 VCAP1, L8 VDDXSPI1, L9 VDD, L10 VDDXSPI1, L11 VSS, L12 PB12, L13 PD15, L14 PD14, L15 PN12, M1 PA0, M2 PA1, M3 PA4, M4 PA7, M5 PF11, M6 PE7, M7 PG6, M8 VSS, M9 VSS, M10 VDDXSPI1, M11 PD8, M12 PD11, M13 PB14, M14 PB15, M15 VSS, N1 PA3, N2 PA5, N3 PC5, N4 PB2, N5 PF15, N6 PG4, N7 PG7, N8 PP2, N9 PP3, N10 PP0, N11 PP7, N12 PO0, N13 PD12, N14 PB11, N15 PB13, P1 PA6, P2 PB0, P3 PF13, P4 PF14, P5 PE9, P6 PG5, P7 PG8, P8 PO1, P9 VSS, P10 PP5, P11 PO2, P12 PP1, P13 PD9, P14 PD13, P15 PB10, R1 VSS, R2 PB1, R3 PF12, R4 PE8, R5 PE10, R6 VSS, R7 PG9, R8 PP4, R9 PO5, R10 PO4, R11 PP6, R12 VSS, R13 PG10, R14 PD10, R15 VSS

## STM32H7R3L8HxH
designator *  value STM32H7R3L8HxH  Reference: U
STMicroelectronics Arm Cortex-M7 MCU, 64KB flash, 620KB RAM, 150 GPIO, TFBGA225 HEXA SMPS; ki_keywords: Arm Cortex-M7 STM32H7 STM32H7R3/7S3; ki_fp_filters: ST*TFBGA*13x13mm*Layout15x15*P0.8mm*; Footprint: Package_BGA:ST_TFBGA-225_13x13mm_Layout15x15_P0.8mm; Datasheet: https://www.st.com/resource/en/datasheet/stm32h7r3l8.pdf; Description_: STMicroelectronics Arm Cortex-M7 MCU, 64KB flash, 620KB RAM, 150 GPIO, TFBGA225 HEXA SMPS
pins: A1 VSS, A2 PE0, A3 PF3, A4 PF2, A5 PG3, A6 BOOT0, A7 PM12, A8 VSS, A9 PM6, A10 PM3, A11 VSS, A12 PD3, A13 PE14, A14 PD2, A15 VSS, B1 PB8, B2 PE2, B3 PB5, B4 PF4, B5 PF0, B6 PD7, B7 PM11, B8 PM9, B9 PM5, B10 PM2, B11 PG0, B12 PE13, B13 PD1, B14 PC10, B15 PC11, C1 VBAT, C2 PB9, C3 PE1, C4 PB3(JTDO, C5 PF1, C6 PG2, C7 PM13, C8 PM14, C9 PM8, C10 PM1, C11 PD4, C12 PE11, C13 PD0, C14 PA12, C15 PA11, D1 PC15, D2 PC14, D3 VSS, D4 PB7, D5 PB4(NJTRST), D6 VSS, D7 PD5, D8 DVDD, D9 VDD50USB, D10 PM0, D11 PE15, D12 PC12, D13 PA14(JTCK, D14 PA9, D15 PC8, E1 PE6, E2 PE4, E3 VSS, E4 PC13, E5 PB6, E6 VCAP4, E7 PD6, E8 VSSUSB, E9 VSS, E10 PG1, E11 PE12, E12 PA13(JTMS, E13 PA10, E14 PC9, E15 PC6, F1 PG14, F2 PG12, F3 PG11, F4 PE5, F5 PE3, F6 VSS, F7 VDD, F8 VDD33USB, F9 VDD, F10 VDD, F11 VCAP3, F12 PA8, F13 PC7, F14 PN1, F15 VSS, G1 VLXSMPS, G2 VFBSMPS, G3 PF5, G4 PG15, G5 PG13, G6 VDD, G7 VDDLDO, G8 VSS, G9 VDDLDO, G10 VSS, G11 PA15(JTDI), G12 VSS, G13 PN3, G14 PN0, G15 PN11, H1 VDDSMPS, H2 VSSSMPS, H3 PF8, H4 PF7, H5 PF6, H6 VDD, H7 VSS, H8 VSS, H9 VSS, H10 VDD, H11 VSS, H12 VDDXSPI2, H13 PN10, H14 PN9, H15 PN2, J1 VSS, J2 PF9, J3 PF10, J4 NRST, J5 VSSA, J6 VDDA, J7 VDDLDO, J8 VSS, J9 VDDLDO, J10 VSS, J11 VDDXSPI2, J12 VSS, J13 PN7, J14 PN6, J15 VSS, K1 PH0, K2 PH1, K3 PC0, K4 VREFM, K5 VREFP, K6 VDD, K7 VSS, K8 VDD, K9 VSS, K10 VDD, K11 VCAP2, K12 VDDXSPI2, K13 PN8, K14 PN4, K15 PN5, L1 PC1, L2 PC2, L3 PC3, L4 PA2, L5 PC4, L6 VSS, L7 VCAP1, L8 VDDXSPI1, L9 VDD, L10 VDDXSPI1, L11 VSS, L12 PB12, L13 PD15, L14 PD14, L15 PN12, M1 PA0, M2 PA1, M3 PA4, M4 PA7, M5 PF11, M6 PE7, M7 VSS, M8 VDDXSPI1, M9 VSS, M10 VDDXSPI1, M11 PO3, M12 PP10, M13 PB14, M14 PB15, M15 VSS, N1 PA3, N2 PA5, N3 PC5, N4 PB2, N5 PF15, N6 PP12, N7 PP14, N8 VSS, N9 PP2, N10 PP5, N11 PO2, N12 PP1, N13 PD12, N14 PB11, N15 PB13, P1 PA6, P2 PB0, P3 PF13, P4 PF14, P5 PE9, P6 PP11, P7 PO1, P8 PP15, P9 PP3, P10 PO5, P11 PP0, P12 PP7, P13 PP8, P14 PD13, P15 PB10, R1 VSS, R2 PB1, R3 PF12, R4 PE8, R5 PE10, R6 VSS, R7 PP13, R8 PP4, R9 VSS, R10 PO4, R11 PP6, R12 VSS, R13 PO0, R14 PP9, R15 VSS

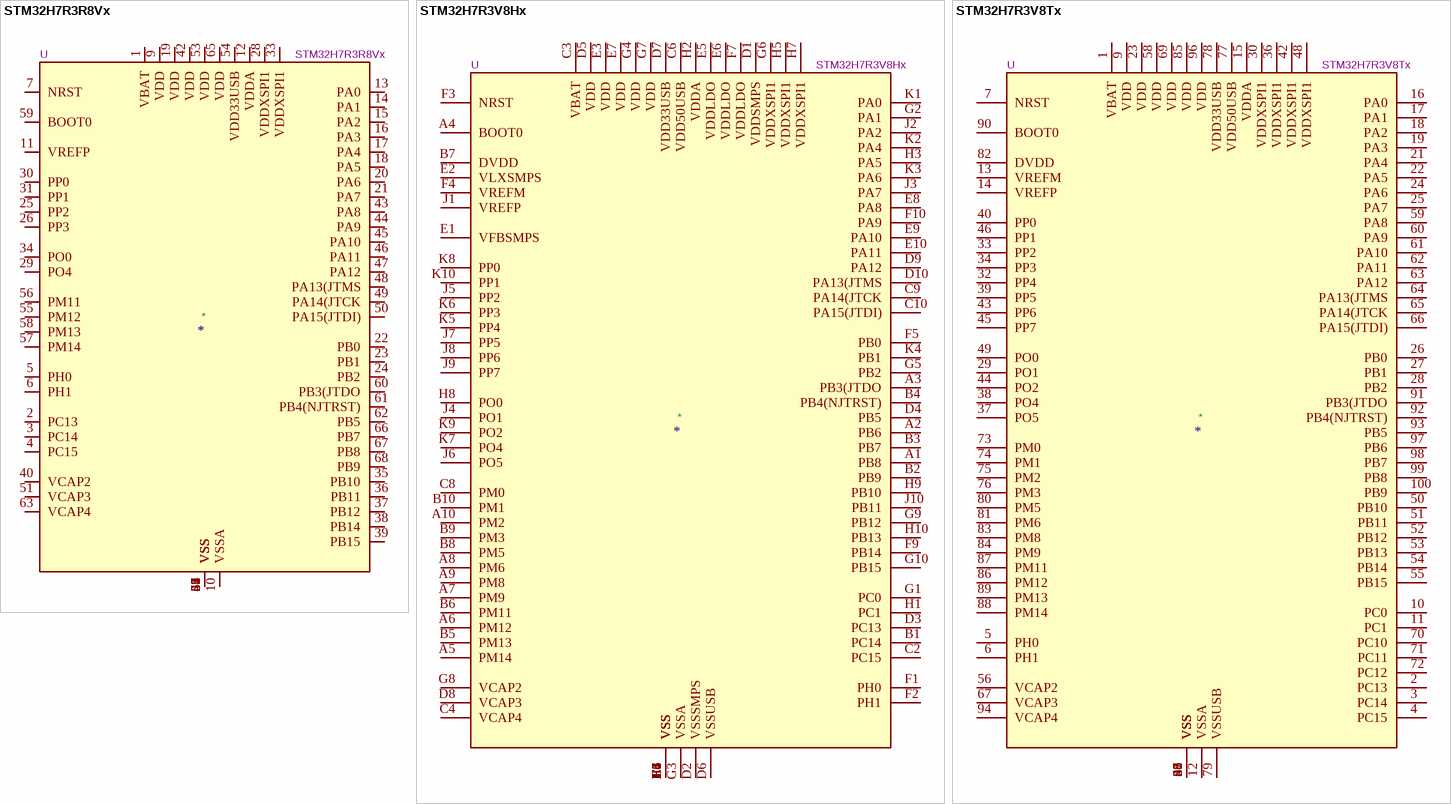
[diagram p25: symbols STM32H7R3R8Vx to STM32H7R3V8Tx]

## STM32H7R3R8Vx
designator *  value STM32H7R3R8Vx  Reference: U
STMicroelectronics Arm Cortex-M7 MCU, 64KB flash, 620KB RAM, 600 MHz, 1.62-3.6V, 45 GPIO, VFQFPN68; ki_keywords: Arm Cortex-M7 STM32H7 STM32H7R3/7S3; ki_fp_filters: QFN*1EP*8x8mm*P0.4mm*; Footprint: Package_DFN_QFN:QFN-68-1EP_8x8mm_P0.4mm_EP6.4x6.4mm; Datasheet: https://www.st.com/resource/en/datasheet/stm32h7r3r8.pdf; Description_: STMicroelectronics Arm Cortex-M7 MCU, 64KB flash, 620KB RAM, 600 MHz, 1.62-3.6V, 45 GPIO, VFQFPN68
pins: 1 VBAT, 2 PC13, 3 PC14, 4 PC15, 5 PH0, 6 PH1, 7 NRST, 8 VSS, 9 VDD, 10 VSSA, 11 VREFP, 12 VDDA, 13 PA0, 14 PA1, 15 PA2, 16 PA3, 17 PA4, 18 PA5, 19 VDD, 20 PA6, 21 PA7, 22 PB0, 23 PB1, 24 PB2, 25 PP2, 26 PP3, 27 VSS, 28 VDDXSPI1, 29 PO4, 30 PP0, 31 PP1, 32 VSS, 33 VDDXSPI1, 34 PO0, 35 PB10, 36 PB11, 37 PB12, 38 PB14, 39 PB15, 40 VCAP2, 41 VSS, 42 VDD, 43 PA8, 44 PA9, 45 PA10, 46 PA11, 47 PA12, 48 PA13(JTMS, 49 PA14(JTCK, 50 PA15(JTDI), 51 VCAP3, 52 VSS, 53 VDD, 54 VDD33USB, 55 PM12, 56 PM11, 57 PM14, 58 PM13, 59 BOOT0, 60 PB3(JTDO, 61 PB4(NJTRST), 62 PB5, 63 VCAP4, 64 VSS, 65 VDD, 66 PB7, 67 PB8, 68 PB9, 69 VSS

## STM32H7R3V8Hx
designator *  value STM32H7R3V8Hx  Reference: U
STMicroelectronics Arm Cortex-M7 MCU, 64KB flash, 620KB RAM, 63 GPIO, TFBGA100; ki_keywords: Arm Cortex-M7 STM32H7 STM32H7R3/7S3; ki_fp_filters: TFBGA*8x8mm*Layout10x10*P0.8mm*; Footprint: Package_BGA:TFBGA-100_8x8mm_Layout10x10_P0.8mm; Datasheet: https://www.st.com/resource/en/datasheet/stm32h7r3v8.pdf; Description_: STMicroelectronics Arm Cortex-M7 MCU, 64KB flash, 620KB RAM, 63 GPIO, TFBGA100
pins: A1 PB8, A2 PB6, A3 PB3(JTDO, A4 BOOT0, A5 PM14, A6 PM12, A7 PM9, A8 PM6, A9 PM8, A10 PM2, B1 PC14, B2 PB9, B3 PB7, B4 PB4(NJTRST), B5 PM13, B6 PM11, B7 DVDD, B8 PM5, B9 PM3, B10 PM1, C1 VSS, C2 PC15, C3 VBAT, C4 VCAP4, C5 VSS, C6 VDD50USB, C7 VSS, C8 PM0, C9 PA14(JTCK, C10 PA15(JTDI), D1 VDDSMPS, D2 VSSSMPS, D3 PC13, D4 PB5, D5 VDD, D6 VSSUSB, D7 VDD33USB, D8 VCAP3, D9 PA12, D10 PA13(JTMS, E1 VFBSMPS, E2 VLXSMPS, E3 VDD, E4 VSS, E5 VDDLDO, E6 VDDLDO, E7 VDD, E8 PA8, E9 PA10, E10 PA11, F1 PH0, F2 PH1, F3 NRST, F4 VREFM, F5 PB0, F6 VSS, F7 VDDLDO, F8 VSS, F9 PB14, F10 PA9, G1 PC0, G2 PA1, G3 VSSA, G4 VDD, G5 PB2, G6 VDDXSPI1, G7 VDD, G8 VCAP2, G9 PB12, G10 PB15, H1 PC1, H2 VDDA, H3 PA5, H4 VSS, H5 VDDXSPI1, H6 VSS, H7 VDDXSPI1, H8 PO0, H9 PB10, H10 PB13, J1 VREFP, J2 PA2, J3 PA7, J4 PO1, J5 PP2, J6 PO5, J7 PP5, J8 PP6, J9 PP7, J10 PB11, K1 PA0, K2 PA4, K3 PA6, K4 PB1, K5 PP4, K6 PP3, K7 PO4, K8 PP0, K9 PO2, K10 PP1

## STM32H7R3V8Tx
designator *  value STM32H7R3V8Tx  Reference: U
STMicroelectronics Arm Cortex-M7 MCU, 64KB flash, 620KB RAM, 600 MHz, 1.62-3.6V, 67 GPIO, LQFP100; ki_keywords: Arm Cortex-M7 STM32H7 STM32H7R3/7S3; ki_fp_filters: LQFP*14x14mm*P0.5mm*; Footprint: Package_QFP:LQFP-100_14x14mm_P0.5mm; Datasheet: https://www.st.com/resource/en/datasheet/stm32h7r3v8.pdf; Description_: STMicroelectronics Arm Cortex-M7 MCU, 64KB flash, 620KB RAM, 600 MHz, 1.62-3.6V, 67 GPIO, LQFP100
pins: 1 VBAT, 2 PC13, 3 PC14, 4 PC15, 5 PH0, 6 PH1, 7 NRST, 8 VSS, 9 VDD, 10 PC0, 11 PC1, 12 VSSA, 13 VREFM, 14 VREFP, 15 VDDA, 16 PA0, 17 PA1, 18 PA2, 19 PA3, 20 VSS, 21 PA4, 22 PA5, 23 VDD, 24 PA6, 25 PA7, 26 PB0, 27 PB1, 28 PB2, 29 PO1, 30 VDDXSPI1, 31 VSS, 32 PP4, 33 PP2, 34 PP3, 35 VSS, 36 VDDXSPI1, 37 PO5, 38 PO4, 39 PP5, 40 PP0, 41 VSS, 42 VDDXSPI1, 43 PP6, 44 PO2, 45 PP7, 46 PP1, 47 VSS, 48 VDDXSPI1, 49 PO0, 50 PB10, 51 PB11, 52 PB12, 53 PB13, 54 PB14, 55 PB15, 56 VCAP2, 57 VSS, 58 VDD, 59 PA8, 60 PA9, 61 PA10, 62 PA11, 63 PA12, 64 PA13(JTMS, 65 PA14(JTCK, 66 PA15(JTDI), 67 VCAP3, 68 VSS, 69 VDD, 70 PC10, 71 PC11, 72 PC12, 73 PM0, 74 PM1, 75 PM2, 76 PM3, 77 VDD50USB, 78 VDD33USB, 79 VSSUSB, 80 PM5, 81 PM6, 82 DVDD, 83 PM8, 84 PM9, 85 VDD, 86 PM12, 87 PM11, 88 PM14, 89 PM13, 90 BOOT0, 91 PB3(JTDO, 92 PB4(NJTRST), 93 PB5, 94 VCAP4, 95 VSS, 96 VDD, 97 PB6, 98 PB7, 99 PB8, 100 PB9

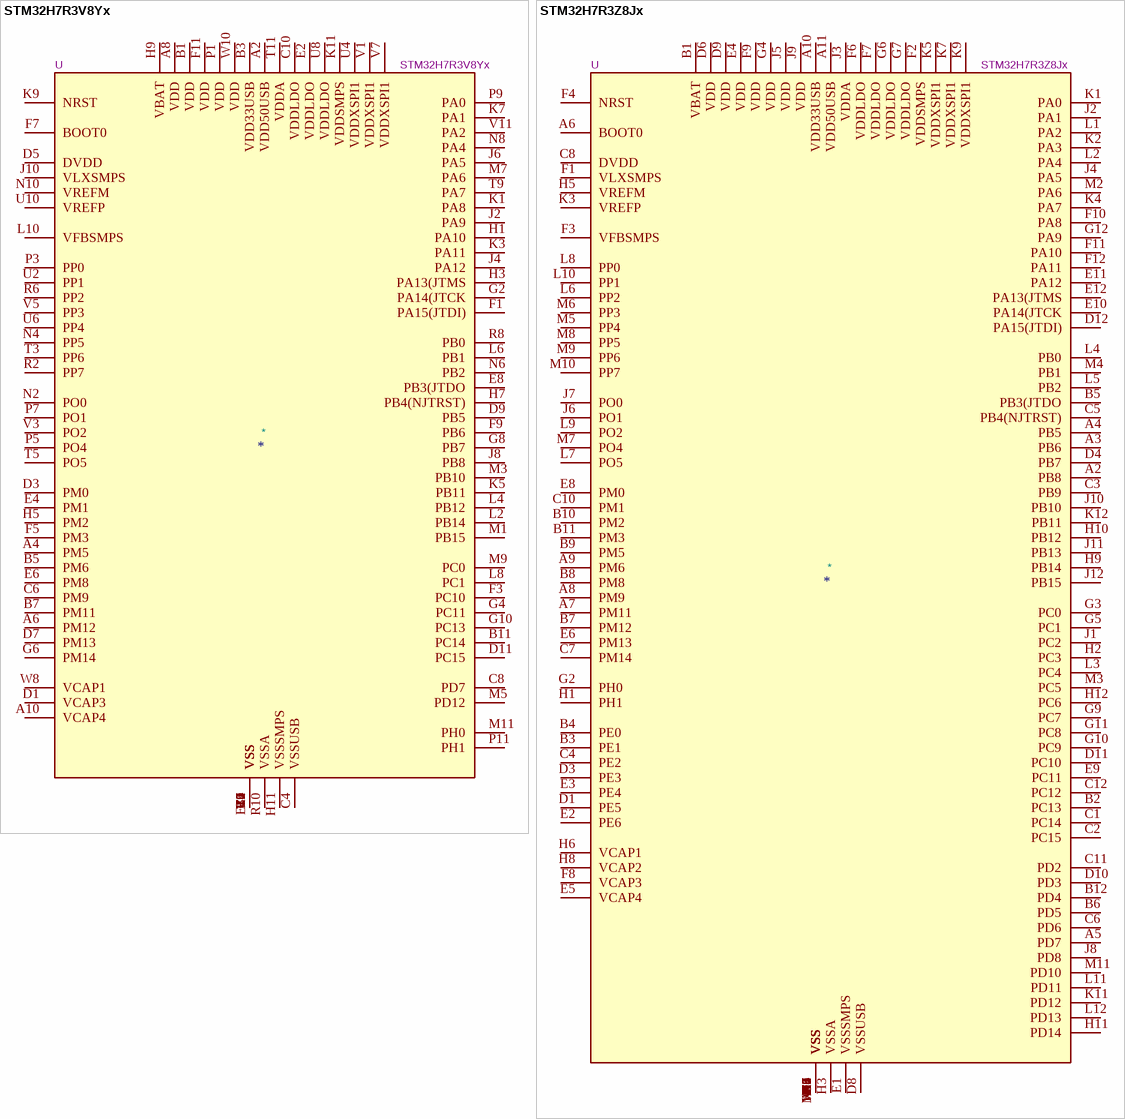
[diagram p26: symbols STM32H7R3V8Yx to STM32H7R3Z8Jx]

## STM32H7R3V8Yx
designator *  value STM32H7R3V8Yx  Reference: U
STMicroelectronics Arm Cortex-M7 MCU, 64KB flash, 620KB RAM, 65 GPIO, WLCSP101; ki_keywords: Arm Cortex-M7 STM32H7 STM32H7R3/7S3; ki_fp_filters: ST*WLCSP*3.86x3.79mm*Layout11x19*P0.35mm*Stagger*; Footprint: Package_CSP:ST_WLCSP-101_3.86x3.79mm_Layout11x19_P0.35mm_Stagger; Datasheet: https://www.st.com/resource/en/datasheet/stm32h7r3v8.pdf; Description_: STMicroelectronics Arm Cortex-M7 MCU, 64KB flash, 620KB RAM, 65 GPIO, WLCSP101
pins: A2 VDD50USB, A4 PM5, A6 PM12, A8 VDD, A10 VCAP4, B1 VDD, B3 VDD33USB, B5 PM6, B7 PM11, B9 VSS, B11 PC14, C2 VSS, C4 VSSUSB, C6 PM9, C8 PD7, C10 VDDLDO, D1 VCAP3, D3 PM0, D5 DVDD, D7 PM13, D9 PB5, D11 PC15, E2 VDDLDO, E4 PM1, E6 PM8, E8 PB3(JTDO, E10 VSS, F1 PA15(JTDI), F3 PC10, F5 PM3, F7 BOOT0, F9 PB6, F11 VDD, G2 PA14(JTCK, G4 PC11, G6 PM14, G8 PB7, G10 PC13, H1 PA10, H3 PA13(JTMS, H5 PM2, H7 PB4(NJTRST), H9 VBAT, H11 VSSSMPS, J2 PA9, J4 PA12, J6 PA5, J8 PB8, J10 VLXSMPS, K1 PA8, K3 PA11, K5 PB11, K7 PA1, K9 NRST, K11 VDDSMPS, L2 PB14, L4 PB12, L6 PB1, L8 PC1, L10 VFBSMPS, M1 PB15, M3 PB10, M5 PD12, M7 PA6, M9 PC0, M11 PH0, N2 PO0, N4 PP5, N6 PB2, N8 PA4, N10 VREFM, P1 VDD, P3 PP0, P5 PO4, P7 PO1, P9 PA0, P11 PH1, R2 PP7, R4 VSS, R6 PP2, R8 PB0, R10 VSSA, T1 VSS, T3 PP6, T5 PO5, T7 VSS, T9 PA7, T11 VDDA, U2 PP1, U4 VDDXSPI1, U6 PP4, U8 VDDLDO, U10 VREFP, V1 VDDXSPI1, V3 PO2, V5 PP3, V7 VDDXSPI1, V9 VSS, V11 PA2, W8 VCAP1, W10 VDD

## STM32H7R3Z8Jx
designator *  value STM32H7R3Z8Jx  Reference: U
STMicroelectronics Arm Cortex-M7 MCU, 64KB flash, 620KB RAM, 600 MHz, 1.62-3.6V, 94 GPIO, UFBGA144; ki_keywords: Arm Cortex-M7 STM32H7 STM32H7R3/7S3; ki_fp_filters: UFBGA*10x10mm*Layout12x12*P0.8mm*; Footprint: Package_BGA:UFBGA-144_10x10mm_Layout12x12_P0.8mm; Datasheet: https://www.st.com/resource/en/datasheet/stm32h7r3z8.pdf; Description_: STMicroelectronics Arm Cortex-M7 MCU, 64KB flash, 620KB RAM, 600 MHz, 1.62-3.6V, 94 GPIO, UFBGA144
pins: A1 VSS, A2 PB8, A3 PB6, A4 PB5, A5 PD7, A6 BOOT0, A7 PM11, A8 PM9, A9 PM6, A10 VDD33USB, A11 VDD50USB, A12 VSS, B1 VBAT, B2 PC13, B3 PE1, B4 PE0, B5 PB3(JTDO, B6 PD5, B7 PM12, B8 PM8, B9 PM5, B10 PM2, B11 PM3, B12 PD4, C1 PC14, C2 PC15, C3 PB9, C4 PE2, C5 PB4(NJTRST), C6 PD6, C7 PM14, C8 DVDD, C9 VSS, C10 PM1, C11 PD2, C12 PC12, D1 PE5, D2 VSS, D3 PE3, D4 PB7, D5 VSS, D6 VDD, D7 VSS, D8 VSSUSB, D9 VDD, D10 PD3, D11 PC10, D12 PA15(JTDI), E1 VSSSMPS, E2 PE6, E3 PE4, E4 VDD, E5 VCAP4, E6 PM13, E7 VSS, E8 PM0, E9 PC11, E10 PA14(JTCK, E11 PA12, E12 PA13(JTMS, F1 VLXSMPS, F2 VDDSMPS, F3 VFBSMPS, F4 NRST, F5 VSS, F6 VDDLDO, F7 VDDLDO, F8 VCAP3, F9 VDD, F10 PA8, F11 PA10, F12 PA11, G1 VSS, G2 PH0, G3 PC0, G4 VDD, G5 PC1, G6 VDDLDO, G7 VDDLDO, G8 VSS, G9 PC7, G10 PC9, G11 PC8, G12 PA9, H1 PH1, H2 PC3, H3 VSSA, H4 VSS, H5 VREFM, H6 VCAP1, H7 VSS, H8 VCAP2, H9 PB14, H10 PB12, H11 PD14, H12 PC6, J1 PC2, J2 PA1, J3 VDDA, J4 PA5, J5 VDD, J6 PO1, J7 PO0, J8 PD8, J9 VDD, J10 PB10, J11 PB13, J12 PB15, K1 PA0, K2 PA3, K3 VREFP, K4 PA7, K5 VDDXSPI1, K6 VSS, K7 VDDXSPI1, K8 VSS, K9 VDDXSPI1, K10 VSS, K11 PD12, K12 PB11, L1 PA2, L2 PA4, L3 PC4, L4 PB0, L5 PB2, L6 PP2, L7 PO5, L8 PP0, L9 PO2, L10 PP1, L11 PD11, L12 PD13, M1 VSS, M2 PA6, M3 PC5, M4 PB1, M5 PP4, M6 PP3, M7 PO4, M8 PP5, M9 PP6, M10 PP7, M11 PD10, M12 VSS

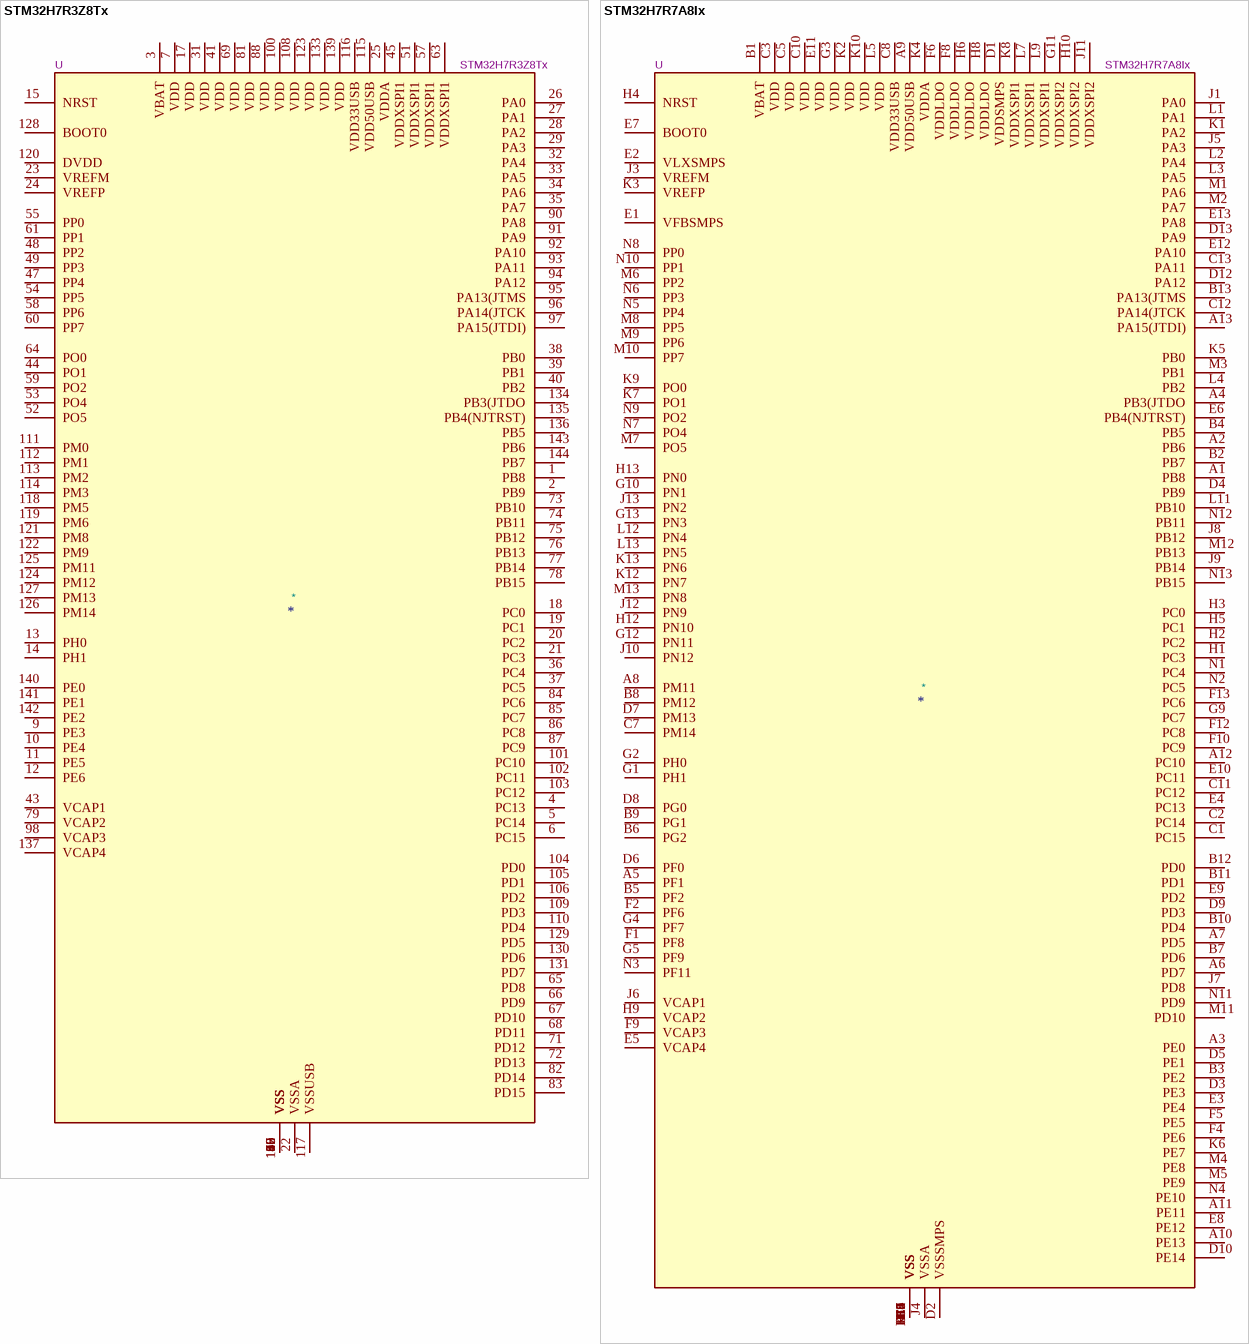
[diagram p27: symbols STM32H7R3Z8Tx to STM32H7R7A8Ix]

## STM32H7R3Z8Tx
designator *  value STM32H7R3Z8Tx  Reference: U
STMicroelectronics Arm Cortex-M7 MCU, 64KB flash, 620KB RAM, 600 MHz, 1.62-3.6V, 98 GPIO, LQFP144; ki_keywords: Arm Cortex-M7 STM32H7 STM32H7R3/7S3; ki_fp_filters: LQFP*20x20mm*P0.5mm*; Footprint: Package_QFP:LQFP-144_20x20mm_P0.5mm; Datasheet: https://www.st.com/resource/en/datasheet/stm32h7r3z8.pdf; Description_: STMicroelectronics Arm Cortex-M7 MCU, 64KB flash, 620KB RAM, 600 MHz, 1.62-3.6V, 98 GPIO, LQFP144
pins: 1 PB8, 2 PB9, 3 VBAT, 4 PC13, 5 PC14, 6 PC15, 7 VDD, 8 VSS, 9 PE3, 10 PE4, 11 PE5, 12 PE6, 13 PH0, 14 PH1, 15 NRST, 16 VSS, 17 VDD, 18 PC0, 19 PC1, 20 PC2, 21 PC3, 22 VSSA, 23 VREFM, 24 VREFP, 25 VDDA, 26 PA0, 27 PA1, 28 PA2, 29 PA3, 30 VSS, 31 VDD, 32 PA4, 33 PA5, 34 PA6, 35 PA7, 36 PC4, 37 PC5, 38 PB0, 39 PB1, 40 PB2, 41 VDD, 42 VSS, 43 VCAP1, 44 PO1, 45 VDDXSPI1, 46 VSS, 47 PP4, 48 PP2, 49 PP3, 50 VSS, 51 VDDXSPI1, 52 PO5, 53 PO4, 54 PP5, 55 PP0, 56 VSS, 57 VDDXSPI1, 58 PP6, 59 PO2, 60 PP7, 61 PP1, 62 VSS, 63 VDDXSPI1, 64 PO0, 65 PD8, 66 PD9, 67 PD10, 68 PD11, 69 VDD, 70 VSS, 71 PD12, 72 PD13, 73 PB10, 74 PB11, 75 PB12, 76 PB13, 77 PB14, 78 PB15, 79 VCAP2, 80 VSS, 81 VDD, 82 PD14, 83 PD15, 84 PC6, 85 PC7, 86 PC8, 87 PC9, 88 VDD, 89 VSS, 90 PA8, 91 PA9, 92 PA10, 93 PA11, 94 PA12, 95 PA13(JTMS, 96 PA14(JTCK, 97 PA15(JTDI), 98 VCAP3, 99 VSS, 100 VDD, 101 PC10, 102 PC11, 103 PC12, 104 PD0, 105 PD1, 106 PD2, 107 VSS, 108 VDD, 109 PD3, 110 PD4, 111 PM0, 112 PM1, 113 PM2, 114 PM3, 115 VDD50USB, 116 VDD33USB, 117 VSSUSB, 118 PM5, 119 PM6, 120 DVDD, 121 PM8, 122 PM9, 123 VDD, 124 PM12, 125 PM11, 126 PM14, 127 PM13, 128 BOOT0, 129 PD5, 130 PD6, 131 PD7, 132 VSS, 133 VDD, 134 PB3(JTDO, 135 PB4(NJTRST), 136 PB5, 137 VCAP4, 138 VSS, 139 VDD, 140 PE0, 141 PE1, 142 PE2, 143 PB6, 144 PB7

## STM32H7R7A8Ix
designator *  value STM32H7R7A8Ix  Reference: U
STMicroelectronics Arm Cortex-M7 MCU, 64KB flash, 620KB RAM, 600 MHz, 117 GPIO, UFBGA169; ki_keywords: Arm Cortex-M7 STM32H7 STM32H7R7/7S7; ki_fp_filters: UFBGA*7x7mm*Layout13x13*P0.5mm*; Footprint: Package_BGA:UFBGA-169_7x7mm_Layout13x13_P0.5mm; Datasheet: https://www.st.com/resource/en/datasheet/stm32h7r7a8.pdf; Description_: STMicroelectronics Arm Cortex-M7 MCU, 64KB flash, 620KB RAM, 600 MHz, 117 GPIO, UFBGA169
pins: A1 PB8, A2 PB6, A3 PE0, A4 PB3(JTDO, A5 PF1, A6 PD7, A7 PD5, A8 PM11, A9 VDD50USB, A10 PE13, A11 PE11, A12 PC10, A13 PA15(JTDI), B1 VBAT, B2 PB7, B3 PE2, B4 PB5, B5 PF2, B6 PG2, B7 PD6, B8 PM12, B9 PG1, B10 PD4, B11 PD1, B12 PD0, B13 PA13(JTMS, C1 PC15, C2 PC14, C3 VDD, C4 VSS, C5 VDD, C6 VSS, C7 PM14, C8 VDD33USB, C9 VSS, C10 VDD, C11 PC12, C12 PA14(JTCK, C13 PA11, D1 VDDSMPS, D2 VSSSMPS, D3 PE3, D4 PB9, D5 PE1, D6 PF0, D7 PM13, D8 PG0, D9 PD3, D10 PE14, D11 VSS, D12 PA12, D13 PA9, E1 VFBSMPS, E2 VLXSMPS, E3 PE4, E4 PC13, E5 VCAP4, E6 PB4(NJTRST), E7 BOOT0, E8 PE12, E9 PD2, E10 PC11, E11 VDD, E12 PA10, E13 PA8, F1 PF8, F2 PF6, F3 VSS, F4 PE6, F5 PE5, F6 VDDLDO, F7 VSS, F8 VDDLDO, F9 VCAP3, F10 PC9, F11 VSS, F12 PC8, F13 PC6, G1 PH1, G2 PH0, G3 VDD, G4 PF7, G5 PF9, G6 VSS, G7 VSS, G8 VSS, G9 PC7, G10 PN1, G11 VDDXSPI2, G12 PN11, G13 PN3, H1 PC3, H2 PC2, H3 PC0, H4 NRST, H5 PC1, H6 VDDLDO, H7 VSS, H8 VDDLDO, H9 VCAP2, H10 VDDXSPI2, H11 VSS, H12 PN10, H13 PN0, J1 PA0, J2 VSS, J3 VREFM, J4 VSSA, J5 PA3, J6 VCAP1, J7 PD8, J8 PB12, J9 PB14, J10 PN12, J11 VDDXSPI2, J12 PN9, J13 PN2, K1 PA2, K2 VDD, K3 VREFP, K4 VDDA, K5 PB0, K6 PE7, K7 PO1, K8 VDDXSPI1, K9 PO0, K10 VDD, K11 VSS, K12 PN7, K13 PN6, L1 PA1, L2 PA4, L3 PA5, L4 PB2, L5 VDD, L6 VSS, L7 VDDXSPI1, L8 VSS, L9 VDDXSPI1, L10 VSS, L11 PB10, L12 PN4, L13 PN5, M1 PA6, M2 PA7, M3 PB1, M4 PE8, M5 PE9, M6 PP2, M7 PO5, M8 PP5, M9 PP6, M10 PP7, M11 PD10, M12 PB13, M13 PN8, N1 PC4, N2 PC5, N3 PF11, N4 PE10, N5 PP4, N6 PP3, N7 PO4, N8 PP0, N9 PO2, N10 PP1, N11 PD9, N12 PB11, N13 PB15

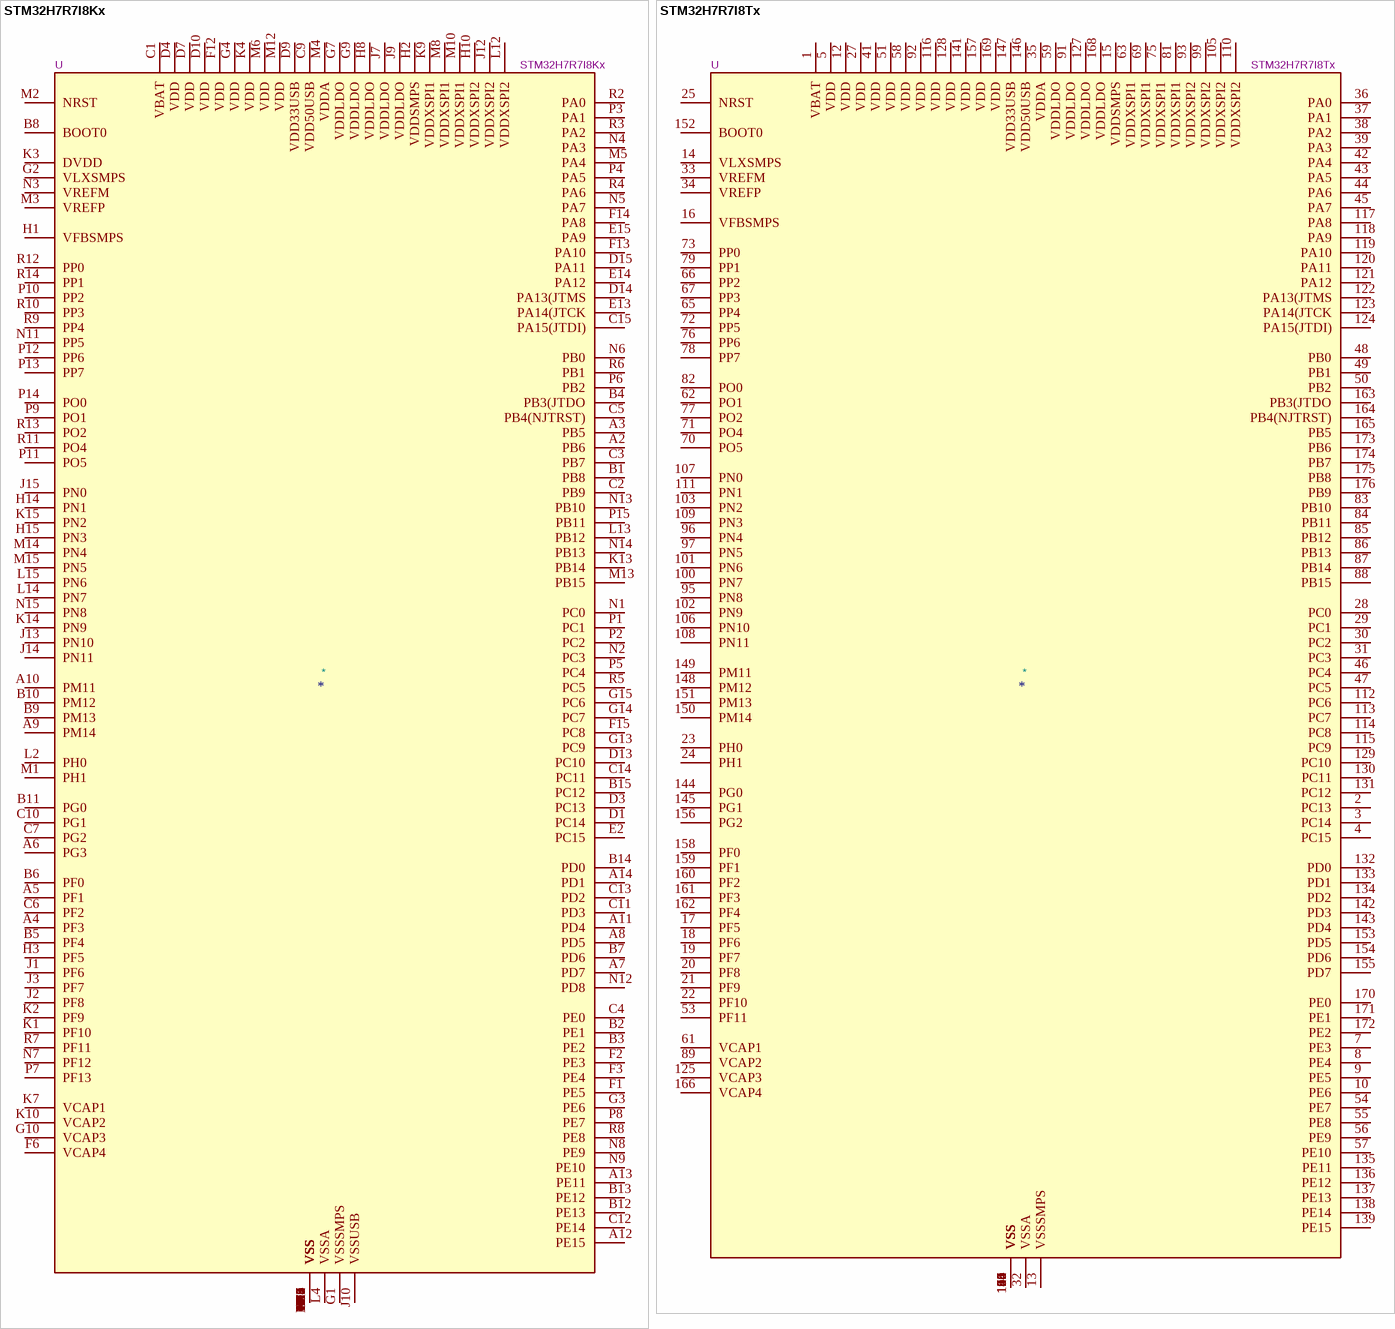
[diagram p28: symbols STM32H7R7I8Kx to STM32H7R7I8Tx]

## STM32H7R7I8Kx
designator *  value STM32H7R7I8Kx  Reference: U
STMicroelectronics Arm Cortex-M7 MCU, 64KB flash, 620KB RAM, 600 MHz, 122 GPIO, UFBGA176; ki_keywords: Arm Cortex-M7 STM32H7 STM32H7R7/7S7; ki_fp_filters: UFBGA*10x10mm*Layout15x15*P0.65mm*; Footprint: Package_BGA:UFBGA-201_10x10mm_Layout15x15_P0.65mm; Datasheet: https://www.st.com/resource/en/datasheet/stm32h7r7i8.pdf; Description_: STMicroelectronics Arm Cortex-M7 MCU, 64KB flash, 620KB RAM, 600 MHz, 122 GPIO, UFBGA176
pins: A1 VSS, A2 PB6, A3 PB5, A4 PF3, A5 PF1, A6 PG3, A7 PD7, A8 PD5, A9 PM14, A10 PM11, A11 PD4, A12 PE15, A13 PE11, A14 PD1, A15 VSS, B1 PB8, B2 PE1, B3 PE2, B4 PB3(JTDO, B5 PF4, B6 PF0, B7 PD6, B8 BOOT0, B9 PM13, B10 PM12, B11 PG0, B12 PE13, B13 PE12, B14 PD0, B15 PC12, C1 VBAT, C2 PB9, C3 PB7, C4 PE0, C5 PB4(NJTRST), C6 PF2, C7 PG2, C8 VSS, C9 VDD50USB, C10 PG1, C11 PD3, C12 PE14, C13 PD2, C14 PC11, C15 PA15(JTDI), D1 PC14, D2 VSS, D3 PC13, D4 VDD, D5 VSS, D6 VSS, D7 VDD, D8 VSS, D9 VDD33USB, D10 VDD, D11 VSS, D12 VSS, D13 PC10, D14 PA13(JTMS, D15 PA11, E1 VSS, E2 PC15, E3 VSS, E4 VSS, E12 VSS, E13 PA14(JTCK, E14 PA12, E15 PA9, F1 PE5, F2 PE3, F3 PE4, F4 VSS, F6 VCAP4, F7 VSS, F8 VSS, F9 VSS, F10 VSS, F12 VDD, F13 PA10, F14 PA8, F15 PC8, G1 VSSSMPS, G2 VLXSMPS, G3 PE6, G4 VDD, G6 VSS, G7 VDDLDO, G8 VSS, G9 VDDLDO, G10 VCAP3, G12 VSS, G13 PC9, G14 PC7, G15 PC6, H1 VFBSMPS, H2 VDDSMPS, H3 PF5, H4 VSS, H6 VSS, H7 VSS, H8 VDDLDO, H9 VSS, H10 VDDXSPI2, H12 VSS, H13 VSS, H14 PN1, H15 PN3, J1 PF6, J2 PF8, J3 PF7, J4 VSS, J6 VSS, J7 VDDLDO, J8 VSS, J9 VDDLDO, J10 VSSUSB, J12 VDDXSPI2, J13 PN10, J14 PN11, J15 PN0, K1 PF10, K2 PF9, K3 DVDD, K4 VDD, K6 VSS, K7 VCAP1, K8 VSS, K9 VDDXSPI1, K10 VCAP2, K12 VSS, K13 PB14, K14 PN9, K15 PN2, L1 VSS, L2 PH0, L3 VSS, L4 VSSA, L12 VDDXSPI2, L13 PB12, L14 PN7, L15 PN6, M1 PH1, M2 NRST, M3 VREFP, M4 VDDA, M5 PA4, M6 VDD, M7 VSS, M8 VDDXSPI1, M9 VSS, M10 VDDXSPI1, M11 VSS, M12 VDD, M13 PB15, M14 PN4, M15 PN5, N1 PC0, N2 PC3, N3 VREFM, N4 PA3, N5 PA7, N6 PB0, N7 PF12, N8 PE9, N9 PE10, N10 VSS, N11 PP5, N12 PD8, N13 PB10, N14 PB13, N15 PN8, P1 PC1, P2 PC2, P3 PA1, P4 PA5, P5 PC4, P6 PB2, P7 PF13, P8 PE7, P9 PO1, P10 PP2, P11 PO5, P12 PP6, P13 PP7, P14 PO0, P15 PB11, R1 VSS, R2 PA0, R3 PA2, R4 PA6, R5 PC5, R6 PB1, R7 PF11, R8 PE8, R9 PP4, R10 PP3, R11 PO4, R12 PP0, R13 PO2, R14 PP1, R15 VSS

## STM32H7R7I8Tx
designator *  value STM32H7R7I8Tx  Reference: U
STMicroelectronics Arm Cortex-M7 MCU, 64KB flash, 620KB RAM, 600 MHz, 118 GPIO, LQFP176; ki_keywords: Arm Cortex-M7 STM32H7 STM32H7R7/7S7; ki_fp_filters: LQFP*24x24mm*P0.5mm*; Footprint: Package_QFP:LQFP-176_24x24mm_P0.5mm; Datasheet: https://www.st.com/resource/en/datasheet/stm32h7r7i8.pdf; Description_: STMicroelectronics Arm Cortex-M7 MCU, 64KB flash, 620KB RAM, 600 MHz, 118 GPIO, LQFP176
pins: 1 VBAT, 2 PC13, 3 PC14, 4 PC15, 5 VDD, 6 VSS, 7 PE3, 8 PE4, 9 PE5, 10 PE6, 11 VSS, 12 VDD, 13 VSSSMPS, 14 VLXSMPS, 15 VDDSMPS, 16 VFBSMPS, 17 PF5, 18 PF6, 19 PF7, 20 PF8, 21 PF9, 22 PF10, 23 PH0, 24 PH1, 25 NRST, 26 VSS, 27 VDD, 28 PC0, 29 PC1, 30 PC2, 31 PC3, 32 VSSA, 33 VREFM, 34 VREFP, 35 VDDA, 36 PA0, 37 PA1, 38 PA2, 39 PA3, 40 VSS, 41 VDD, 42 PA4, 43 PA5, 44 PA6, 45 PA7, 46 PC4, 47 PC5, 48 PB0, 49 PB1, 50 PB2, 51 VDD, 52 VSS, 53 PF11, 54 PE7, 55 PE8, 56 PE9, 57 PE10, 58 VDD, 59 VDDLDO, 60 VSS, 61 VCAP1, 62 PO1, 63 VDDXSPI1, 64 VSS, 65 PP4, 66 PP2, 67 PP3, 68 VSS, 69 VDDXSPI1, 70 PO5, 71 PO4, 72 PP5, 73 PP0, 74 VSS, 75 VDDXSPI1, 76 PP6, 77 PO2, 78 PP7, 79 PP1, 80 VSS, 81 VDDXSPI1, 82 PO0, 83 PB10, 84 PB11, 85 PB12, 86 PB13, 87 PB14, 88 PB15, 89 VCAP2, 90 VSS, 91 VDDLDO, 92 VDD, 93 VDDXSPI2, 94 VSS, 95 PN8, 96 PN4, 97 PN5, 98 VSS, 99 VDDXSPI2, 100 PN7, 101 PN6, 102 PN9, 103 PN2, 104 VSS, 105 VDDXSPI2, 106 PN10, 107 PN0, 108 PN11, 109 PN3, 110 VDDXSPI2, 111 PN1, 112 PC6, 113 PC7, 114 PC8, 115 PC9, 116 VDD, 117 PA8, 118 PA9, 119 PA10, 120 PA11, 121 PA12, 122 PA13(JTMS, 123 PA14(JTCK, 124 PA15(JTDI), 125 VCAP3, 126 VSS, 127 VDDLDO, 128 VDD, 129 PC10, 130 PC11, 131 PC12, 132 PD0, 133 PD1, 134 PD2, 135 PE11, 136 PE12, 137 PE13, 138 PE14, 139 PE15, 140 VSS, 141 VDD, 142 PD3, 143 PD4, 144 PG0, 145 PG1, 146 VDD50USB, 147 VDD33USB, 148 PM12, 149 PM11, 150 PM14, 151 PM13, 152 BOOT0, 153 PD5, 154 PD6, 155 PD7, 156 PG2, 157 VDD, 158 PF0, 159 PF1, 160 PF2, 161 PF3, 162 PF4, 163 PB3(JTDO, 164 PB4(NJTRST), 165 PB5, 166 VCAP4, 167 VSS, 168 VDDLDO, 169 VDD, 170 PE0, 171 PE1, 172 PE2, 173 PB6, 174 PB7, 175 PB8, 176 PB9

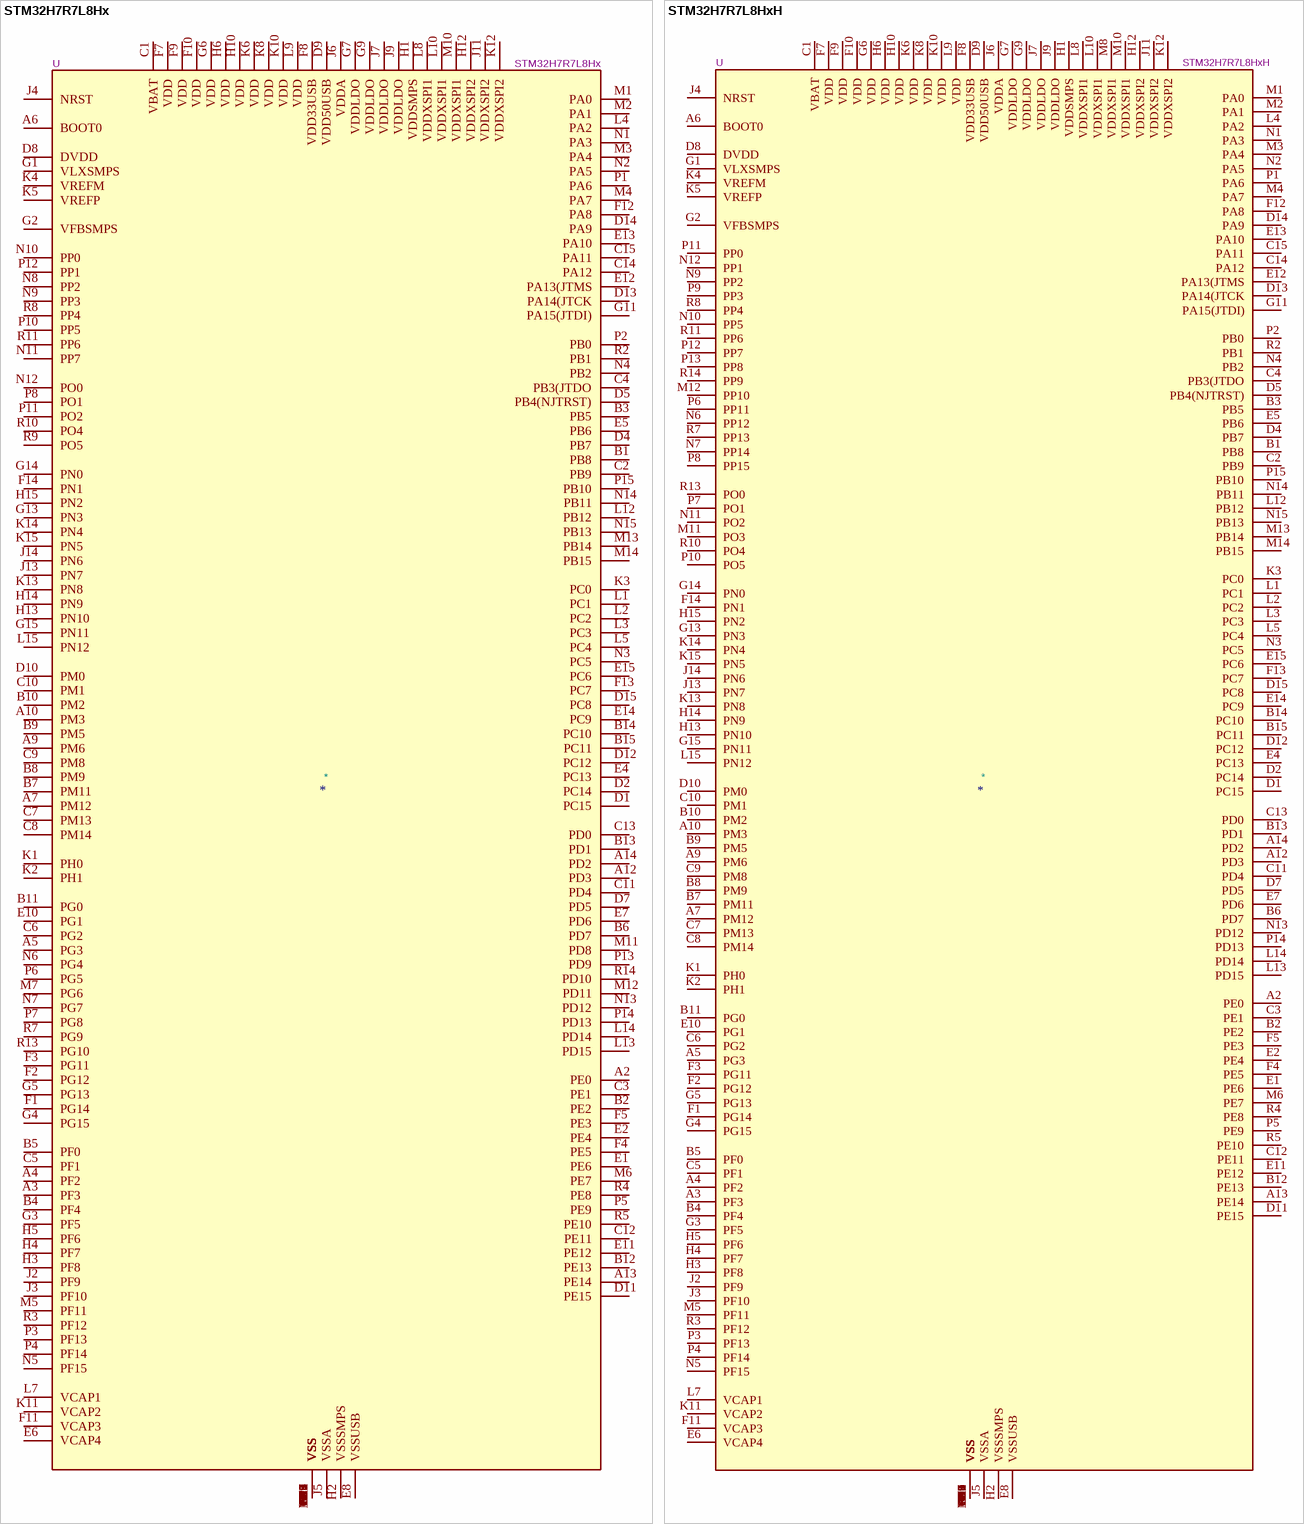
[diagram p29: symbols STM32H7R7L8Hx to STM32H7R7L8HxH]

## STM32H7R7L8Hx
designator *  value STM32H7R7L8Hx  Reference: U
STMicroelectronics Arm Cortex-M7 MCU, 64KB flash, 620KB RAM, 152 GPIO, TFBGA225 OCTO SMPS; ki_keywords: Arm Cortex-M7 STM32H7 STM32H7R7/7S7; ki_fp_filters: ST*TFBGA*13x13mm*Layout15x15*P0.8mm*; Footprint: Package_BGA:ST_TFBGA-225_13x13mm_Layout15x15_P0.8mm; Datasheet: https://www.st.com/resource/en/datasheet/stm32h7r7l8.pdf; Description_: STMicroelectronics Arm Cortex-M7 MCU, 64KB flash, 620KB RAM, 152 GPIO, TFBGA225 OCTO SMPS
pins: A1 VSS, A2 PE0, A3 PF3, A4 PF2, A5 PG3, A6 BOOT0, A7 PM12, A8 VSS, A9 PM6, A10 PM3, A11 VSS, A12 PD3, A13 PE14, A14 PD2, A15 VSS, B1 PB8, B2 PE2, B3 PB5, B4 PF4, B5 PF0, B6 PD7, B7 PM11, B8 PM9, B9 PM5, B10 PM2, B11 PG0, B12 PE13, B13 PD1, B14 PC10, B15 PC11, C1 VBAT, C2 PB9, C3 PE1, C4 PB3(JTDO, C5 PF1, C6 PG2, C7 PM13, C8 PM14, C9 PM8, C10 PM1, C11 PD4, C12 PE11, C13 PD0, C14 PA12, C15 PA11, D1 PC15, D2 PC14, D3 VSS, D4 PB7, D5 PB4(NJTRST), D6 VSS, D7 PD5, D8 DVDD, D9 VDD50USB, D10 PM0, D11 PE15, D12 PC12, D13 PA14(JTCK, D14 PA9, D15 PC8, E1 PE6, E2 PE4, E3 VSS, E4 PC13, E5 PB6, E6 VCAP4, E7 PD6, E8 VSSUSB, E9 VSS, E10 PG1, E11 PE12, E12 PA13(JTMS, E13 PA10, E14 PC9, E15 PC6, F1 PG14, F2 PG12, F3 PG11, F4 PE5, F5 PE3, F6 VSS, F7 VDD, F8 VDD33USB, F9 VDD, F10 VDD, F11 VCAP3, F12 PA8, F13 PC7, F14 PN1, F15 VSS, G1 VLXSMPS, G2 VFBSMPS, G3 PF5, G4 PG15, G5 PG13, G6 VDD, G7 VDDLDO, G8 VSS, G9 VDDLDO, G10 VSS, G11 PA15(JTDI), G12 VSS, G13 PN3, G14 PN0, G15 PN11, H1 VDDSMPS, H2 VSSSMPS, H3 PF8, H4 PF7, H5 PF6, H6 VDD, H7 VSS, H8 VSS, H9 VSS, H10 VDD, H11 VSS, H12 VDDXSPI2, H13 PN10, H14 PN9, H15 PN2, J1 VSS, J2 PF9, J3 PF10, J4 NRST, J5 VSSA, J6 VDDA, J7 VDDLDO, J8 VSS, J9 VDDLDO, J10 VSS, J11 VDDXSPI2, J12 VSS, J13 PN7, J14 PN6, J15 VSS, K1 PH0, K2 PH1, K3 PC0, K4 VREFM, K5 VREFP, K6 VDD, K7 VSS, K8 VDD, K9 VSS, K10 VDD, K11 VCAP2, K12 VDDXSPI2, K13 PN8, K14 PN4, K15 PN5, L1 PC1, L2 PC2, L3 PC3, L4 PA2, L5 PC4, L6 VSS, L7 VCAP1, L8 VDDXSPI1, L9 VDD, L10 VDDXSPI1, L11 VSS, L12 PB12, L13 PD15, L14 PD14, L15 PN12, M1 PA0, M2 PA1, M3 PA4, M4 PA7, M5 PF11, M6 PE7, M7 PG6, M8 VSS, M9 VSS, M10 VDDXSPI1, M11 PD8, M12 PD11, M13 PB14, M14 PB15, M15 VSS, N1 PA3, N2 PA5, N3 PC5, N4 PB2, N5 PF15, N6 PG4, N7 PG7, N8 PP2, N9 PP3, N10 PP0, N11 PP7, N12 PO0, N13 PD12, N14 PB11, N15 PB13, P1 PA6, P2 PB0, P3 PF13, P4 PF14, P5 PE9, P6 PG5, P7 PG8, P8 PO1, P9 VSS, P10 PP5, P11 PO2, P12 PP1, P13 PD9, P14 PD13, P15 PB10, R1 VSS, R2 PB1, R3 PF12, R4 PE8, R5 PE10, R6 VSS, R7 PG9, R8 PP4, R9 PO5, R10 PO4, R11 PP6, R12 VSS, R13 PG10, R14 PD10, R15 VSS